# Altium schematic symbol library lib.SchLib: 480 symbols (part 2 of 6)
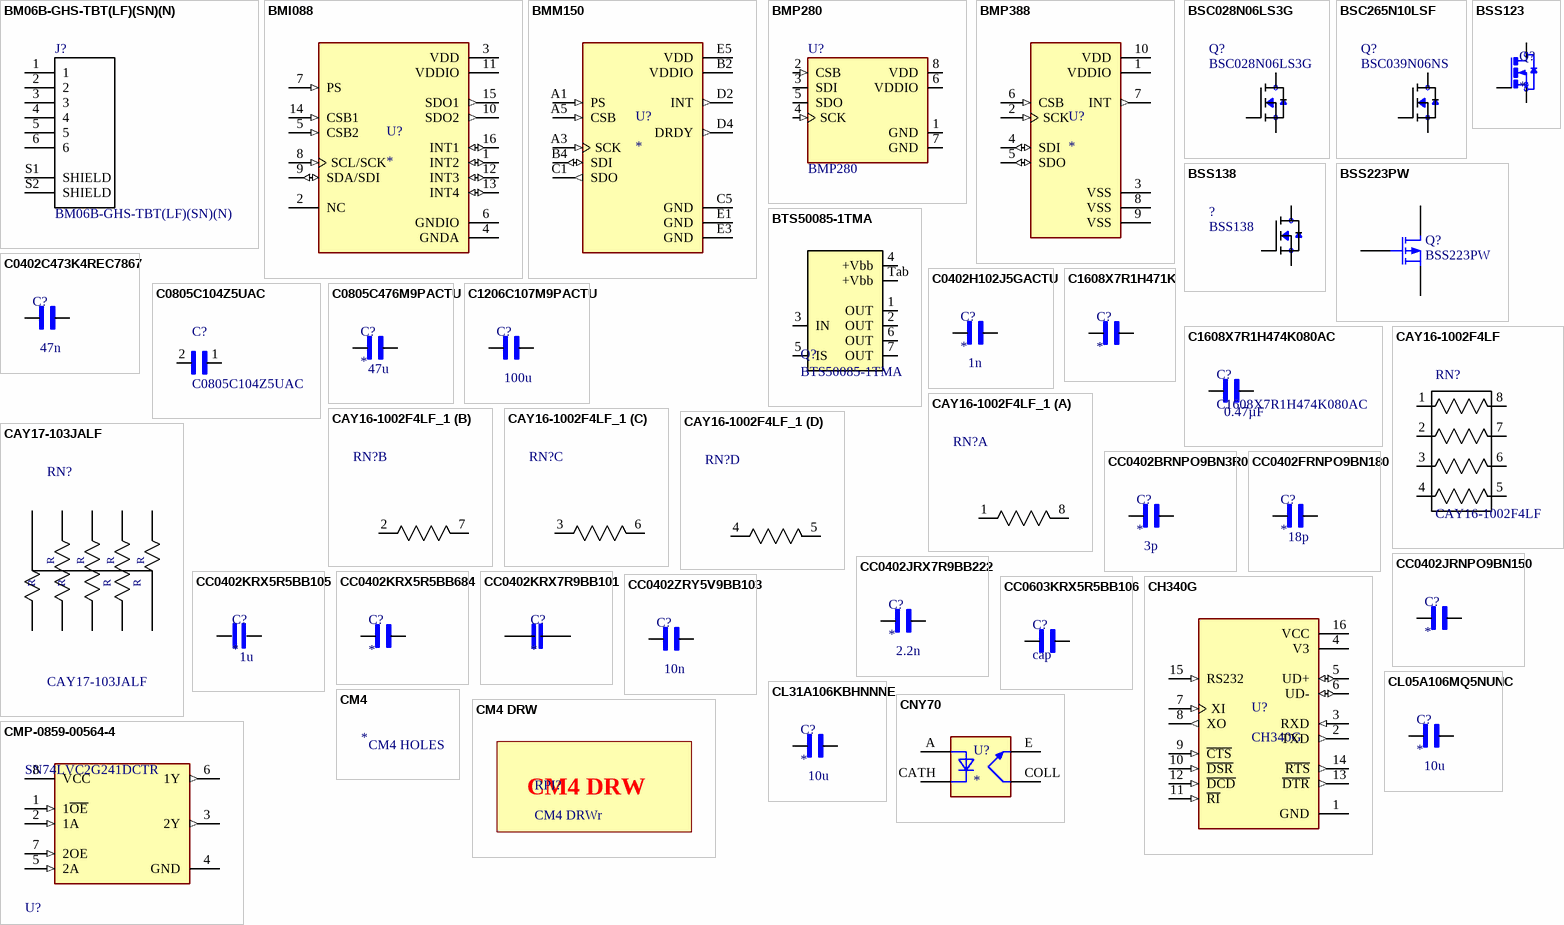
[diagram p21: symbols BM06B-GHS-TBT(LF)(SN)(N) to CNY70]

## CAY16-1002F4LF
designator RN?
10k Ohm В±1% 62.5mW Power Per Element Isolated Resistor Network/Array В±200ppm/В°C 1206 _3216 Metric_, Convex, Long Side Terminals; MF: Bourns; MP: CAY16-1002F4LF; SnapEDA_Link: https://www.snapeda.com/parts/CAY16-1002F4LF/Bourns/view-part/289970/?ref=snap; Package: 1206 Bourns; Value: *
footprint *RESCAXE80P320X160-8N
pins: 1, 2, 3, 4, 5, 6, 7, 8

## CAY16-1002F4LF_1
designator RN?, comment CAY16-1002F4LF  (value not drawn)
10k Ohm В±1% 62.5mW Power Per Element Isolated Resistor Network/Array В±200ppm/В°C 1206 _3216 Metric_, Convex, Long Side Terminals; MF: Bourns; MP: CAY16-1002F4LF; SnapEDA_Link: https://www.snapeda.com/parts/CAY16-1002F4LF/Bourns/view-part/289970/?ref=snap; Package: 1206 Bourns; Value: *
footprint *RESCAXE80P320X160-8N
part A pins: 1, 8
part B pins: 2, 7
part C pins: 3, 6
part D pins: 4, 5

## CAY17-103JALF
designator RN?
10k Ohm В±5% 62.5mW Power Per Element Bussed Resistor Network/Array В±250ppm/В°C 1206 _3216 Metric_, Convex, Long Side Terminals; MF: Bourns; Package: 1206 Bourns; SnapEDA_Link: https://www.snapeda.com/parts/CAY17-103JALF/Bourns%20-%20J.W.%20Miller/view-part/342691/?ref=snap; MP: CAY17-103JALF; Value: *
footprint *RESCAXS64P320X160X60-10N
pins: 1, 2, 3, 4, 5, 6, 7, 8, 9, 10
text: R

## CC0402BRNPO9BN3R0
designator C?  value 3p
0402 3 pF 50 V Â±0.1 pF Tolerance NP0 SMT Multilayer Ceramic Capacitor; MP: CC0402BRNPO9BN3R0; Package: None; Price: None; Availability: Unavailable
footprint CAPC1005X55N
pins: 1, 2

## CC0402FRNPO9BN180
designator C?  value 18p
18pF Â±1% 50V Ceramic Capacitor C0G, NP0 0402 (1005 Metric); MP: CC0402FRNPO9BN180; MF: Yageo; Package: 0402 Yageo; SnapEDA_Link: https://www.snapeda.com/parts/CC0402FRNPO9BN180/Yageo/view-part/1820898/?ref=snap; Purchase-URL: https://item.szlcsc.com/561927.html; ChipDip_Link: https://www.chipdip.ru/product0/8003038321; HelpURL: https://item.szlcsc.com/561927.html
footprint CAPC1005X55N
pins: 1, 2

## CC0402JRNPO9BN150
designator C?
KC 15pF 0402 5% 50V NP0; Value: 15p; MP: CC0402JRNPO9BN150; Package: None; Price: None; Availability: Unavailable
footprint CAPC1005X55N
pins: 1, 2

## CC0402JRX7R9BB222
designator C?  value 2.2n
KC 2.2nF 0402 5% 50V X7R; MP: CC0402JRX7R9BB222; Package: None; Price: None; Availability: Unavailable
footprint CAPC1005X55N
pins: 1, 2

## CC0402KRX5R5BB105
designator C?  value 1u
10% 6.3V Ceramic Capacitor X5R 0402 _1005 Metric_; MF: Yageo; MP: CC0402KRX5R5BB105; Price: None; Availability: Unavailable; Package: 0402; SnapEDA_Link: https://www.snapeda.com/parts/CC0402KRX5R5BB105/Yageo/view-part/105653/?ref=snap
footprint CAPC1005X55N
pins: 1, 2

## CC0402KRX5R5BB684
designator C?
CAP CER 0.68UF 6.3V X5R 0402; Value: 0.68u; MP: CC0402KRX5R5BB684; Package: None; Price: None; Availability: Unavailable
footprint CAPC1005X55N
pins: 1, 2

## CC0402KRX7R9BB101
designator C?
100pF Â±10% 50V Ceramic Capacitor X7R 0402 _1005 Metric_; MP: CC0402KRX7R9BB101; MF: Yageo; Value: 100p; Digi-Key_Part_Number: 311-1419-1-ND; Package: 0402 Yageo; SnapEDA_Link: https://www.snapeda.com/parts/CC0402KRX7R9BB101/Yageo/view-part/460095/?ref=snap; Digi-Key_Purchase_URL: https://www.digikey.com/product-detail/en/yageo/CC0402KRX7R9BB101/311-1419-1-ND/2833725?utm_source=snapeda&utm_medium=aggregator&utm_campaign=symbol
footprint CAPC1005X60
pins: 1, 2

## CC0402ZRY5V9BB103
designator C?, comment value 10n  (hidden comment: cap)
.01UF 50V +80-20% 0402; MP: CC0402ZRY5V9BB103; Package: None; Price: None; Availability: Unavailable
footprint CAPC1005X55N
pins: 1, 2

## CC0603KRX5R5BB106
designator C?, comment cap
10ÂµF Â±10% 6.3V Ceramic Capacitor X5R 0603 _1608 Metric_; Value: 10u; MP: CC0603KRX5R5BB106; MF: Yageo; SnapEDA_Link: https://www.snapeda.com/parts/CC0603KRX5R5BB106/Yageo/view-part/566409/?ref=snap; Package: 0603 Yageo; Digi-Key_Part_Number: 311-1781-1-ND; Digi-Key_Purchase_URL: https://www.digikey.ca/product-detail/en/yageo/CC0603KRX5R5BB106/311-1781-1-ND/5195683?utm_source=snapeda&utm_medium=aggregator&utm_campaign=symbol
footprint CAPC1608X90
pins: 1, 2

## CH340G
designator U?
USB Interface Integrated Circuit; MF: WCH; SnapEDA_Link: https://www.snapeda.com/parts/Ch340G/WCH/view-part/?ref=snap; MP: Ch340G; Value: *; Package: None; HelpURL: http://images.100y.com.tw/pdf_file/34-WCH-CH340G.pdf
footprint SOIC127P600X180-16N
pins: 1 GND (power), 2 TXD (out), 3 RXD (in), 4 V3 (power), 5 UD+ (io), 6 UD- (io), 7 XI (in), 8 XO (out), 9 ~{CTS} (in), 10 ~{DSR} (in), 11 ~{RI} (in), 12 ~{DCD} (in), 13 ~{DTR} (out), 14 ~{RTS} (out), 15 RS232 (in), 16 VCC (power)

## CL05A106MQ5NUNC
designator C?  value 10u
10 uF ±20% 6.3V Ceramic Capacitor X5R 0402 (1005 Metric); MF: YAGEO or Samsung; MP: CC0402MRX5R4BB106 or CL05A106MQ5NUNC; SnapEDA_Link: https://www.snapeda.com/parts/CL05A106MQ5NUNC/Samsung/view-part/3597832/?ref=snap; Availability: Good; Package: 0402; DigiKey-Purchase-URL: https://snapeda.com/shop?store=DigiKey&id=3597832; Arrow_Electronics-Purchase-URL: https://snapeda.com/shop?store=Arrow+Electronics&id=3597832; Price: None; Check_prices: https://www.snapeda.com/parts/CL05A106MQ5NUNC/Samsung/view-part/3597832/?ref=eda
footprint CAPC1005X55N
pins: 1, 2

## CL31A106KBHNNNE
designator C?  value 10u
10uF Â±10% 50V Ceramic Capacitor X5R 1206 (3216 Metric); MP: CL31A106KBHNNNE; MF: Samsung Electro-Mechanics; Availability: Good; Package: 1206 Samsung; Price: None; SnapEDA_Link: https://www.snapeda.com/parts/CL31A106KBHNNNE/Samsung%20Electro-Mechanics/view-part/3597975/?ref=snap; Purchase-URL: https://pricing.snapeda.com/search/part/CL31A106KBHNNNE/?ref=eda
footprint CAPC3216X180N
pins: 1, 2

## CM4
designator *  (value not drawn)
Instructions: DNP
footprint CM4
text: CM4 HOLES

## CM4 DRW
designator RPI?, comment CM4 DRWr
CM4 DRW; Manufacturer: SparkFun Electronics; Manufacturer Part Number: PRT-14017; Nils Minor: author; nilsminor@web.de: mail; Accessory Type: Connector; For Use With/Related Products: Raspberry Pi; RoHS: RoHS Compliant; Category: Development Boards, Kits, Programmers; Stock 1: 150; Pricing 1: 1=1.84 (EUR); Part Status: Active; ComponentLink1URL: https://cdn.sparkfun.com/datasheets/Dev/RaspberryPi/12313.pdf; ComponentLink1Description: https://cdn.sparkfun.com/datasheets/Dev/RaspberryPi/12313.pdf
footprint CM4 DRW (Raspberry pi CM4)

## CMP-0859-00564-4
designator U?, comment SN74LVC2G241DCTR
IC BUFFER NON-INVERT 5.5V SM8; MF: Texas Instruments; Package: DCT0008A; HelpURL: https://www.ti.com/lit/ds/symlink/sn74lvc2g241.pdf?ts=1646831791145&ref_url=https%253A%252F%252Fwww.google.com%252F; MP: SN74LVC2G241DCTR
footprint FP-DCT0008A-IPC_C
pins: 1 1~{OE} (in), 2 1A (in), 3 2Y (out), 4 GND (power), 5 2A (in), 6 1Y (out), 7 2OE (in), 8 VCC (power)

## CNY70
designator U?
Reflective Optical Sensor 0.197 _5mm_ PCB Mount; MP: CNY70; MF: Vishay; Package: PCB Mount Vishay; SnapEDA_Link: https://www.snapeda.com/parts/CNY70/Vishay%20Semiconductor%20Opto%20Division/view-part/230090/?ref=snap; Value: *; HelpURL: https://static.chipdip.ru/lib/990/DOC011990850.pdf
footprint DIPS254W50P254L710H600Q4
pins: A, CATH, COLL, E

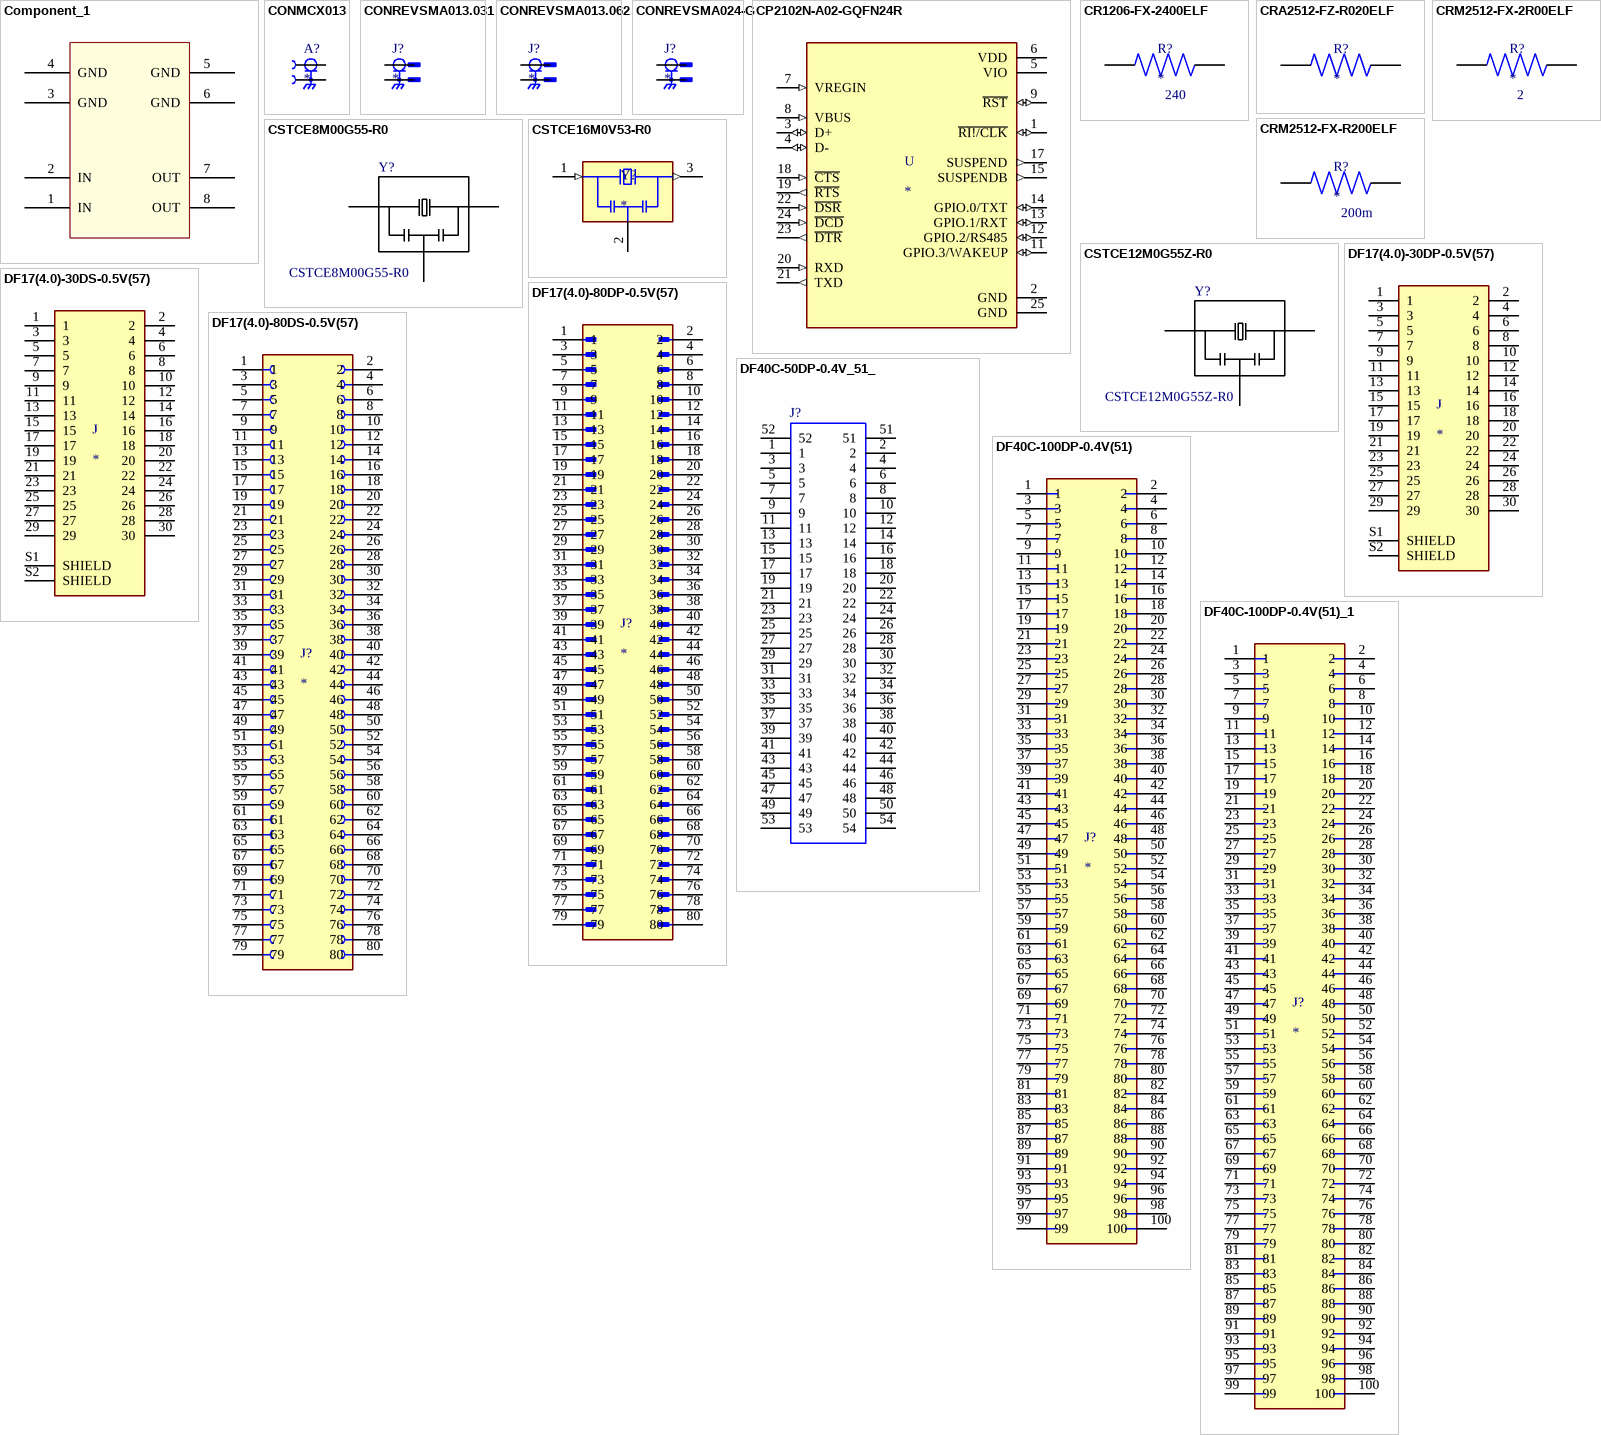
[diagram p4: symbols Component_1 to DF40C-100DP-0.4V(51)_1]

## Component_1
designator *  (value not drawn)
DC/DC
footprint DC/DC
pins: 1 IN, 2 IN, 3 GND, 4 GND, 5 GND, 6 GND, 7 OUT, 8 OUT

## CONMCX013
designator A?
RF Connectors / Coaxial Connectors MCX Connector Receptacle, Female Socket 50Ohm Board Edge, Cutout; Surface Mount Solder; MF: Linx Technologies; MP: CONMCX013; Package: -- Linx Technologies Inc.; Price: None; Availability: In Stock; Check_prices: https://www.snapeda.com/parts/CONMCX013/Linx/view-part/5168312/?ref=eda; SnapEDA_Link: https://www.snapeda.com/parts/CONMCX013/Linx/view-part/5168312/?ref=snap; Value: *
footprint LINX_CONMCX013
pins: 1, G1 2, G2 2

## CONREVSMA013.031
designator J?
CONN RPSMA PLG STR 50OHM EDGEMNT; MF: Linx; MP: CONREVSMA013.031; Package: None; Purchase-URL: https://pricing.snapeda.com/search/part/CONREVSMA013.031/?ref=eda; Value: *; SnapEDA_Link: https://www.snapeda.com/parts/CONREVSMA013.031/Linx/view-part/?ref=snap; Price: None; Check_prices: https://www.snapeda.com/parts/CONREVSMA013.031/Linx/view-part/?ref=eda; Availability: In Stock
footprint LINX_CONREVSMA013.031
pins: 1, S1 2, S2 2, S3 2, S4 2

## CONREVSMA013.062
designator J?
RP-SMA Plug 50 Ohm .062 PCB Edge Mount; MF: Linx; MP: CONREVSMA013.062; SnapEDA_Link: https://www.snapeda.com/parts/CONREVSMA013.062/Linx/view-part/?ref=snap; Package: None; Value: *; Check_prices: https://www.snapeda.com/parts/CONREVSMA013.062/Linx/view-part/?ref=eda
footprint LINX_CONREVSMA013.062
pins: 1, S1 2, S2 2, S3 2, S4 2

## CONREVSMA024-G
designator J?
RP-SMA Jack 50 Ohm PCB Cutout Mount; MF: Linx Technologies; MP: CONREVSMA024-G; SnapEDA_Link: https://www.snapeda.com/parts/CONREVSMA024-G/Linx/view-part/?ref=snap; Package: None; Value: *; Check_prices: https://www.snapeda.com/parts/CONREVSMA024-G/Linx/view-part/?ref=eda
footprint LINX_CONREVSMA024-G (Footprint not found)
pins: 1, G1 2, G2 2

## CP2102N-A02-GQFN24R
designator U
USB Bridge, USB to UART USB 2.0 UART Interface 24-QFN _4x4_; MF: Silicon Labs; MP: CP2102N-A02-GQFN24R; Package: WFQFN-24 Silicon Labs; SnapEDA_Link: https://www.snapeda.com/parts/CP2102N-A02-GQFN24R/Silicon%20Labs/view-part/3601234/?ref=snap; Value: *; ChipDip_Link: https://www.chipdip.ru/product/cp2102n-a02-gqfn24; HelpURL: http://www.farnell.com/datasheets/2786351.pdf
footprint QFN50P400X400X80-25N
pins: 1 ~{RI!/CLK} (io), 2 GND (power), 3 D+ (io), 4 D- (io), 5 VIO (power), 6 VDD (power), 7 VREGIN (in), 8 VBUS (in), 9 ~{RST} (io), 11 GPIO.3/WAKEUP (io), 12 GPIO.2/RS485 (io), 13 GPIO.1/RXT (io), 14 GPIO.0/TXT (io), 15 SUSPENDB (out), 17 SUSPEND (out), 18 ~{CTS} (in), 19 ~{RTS} (out), 20 RXD (in), 21 TXD (out), 22 ~{DSR} (in), 23 ~{DTR} (out), 24 ~{DCD} (in), 25 GND (power)

## CR1206-FX-2400ELF
designator R?  value 240
240 Ohms Â±1% 0.25W, 1/4W Chip Resistor 1206 (3216 Metric) Moisture Resistant Thick Film; MF: Bourns; MP: CR1206-FX-2400ELF; SnapEDA_Link: https://www.snapeda.com/parts/CR1206-FX-2400ELF/Bourns/view-part/?ref=snap; Package: 3216 Bourns; Check_prices: https://www.snapeda.com/parts/CR1206-FX-2400ELF/Bourns/view-part/?ref=eda; HelpURL: https://www.lcsc.com/product-detail/C205230.html
footprint RESC3216X75N
pins: 1, 2

## CRA2512-FZ-R020ELF
designator R?
Res 2512 0.02 Ohm 1% 3W Â±75ppm/Â°C Molded SMD SMD T/R; Value: 0.02; MP: CRA2512-FZ-R020ELF; MF: BOURNS; HelpURL: https://www.lcsc.com/datasheet/C840620.pdf
footprint RESC6432X90N
pins: 1, 2

## CRM2512-FX-2R00ELF
designator R?  value 2
2 Ohms Â±1% 2W Chip Resistor 2512 (6332 Metric) Current Sense Thick Film; MF: Bourns; MP: CRM2512-FX-2R00ELF; SnapEDA_Link: https://www.snapeda.com/parts/CRM2512-FX-2R00ELF/Bourns/view-part/?ref=snap; Package: 6331 Bourns; Check_prices: https://www.snapeda.com/parts/CRM2512-FX-2R00ELF/Bourns/view-part/?ref=eda; HelpURL: https://www.lcsc.com/product-detail/C6669154.html
footprint RESC6331X80N
pins: 1, 2

## CRM2512-FX-R200ELF
designator R?  value 200m
CRM2512 High Power Resistor,2512 R200 1% 2W TC100 | Bourns CRM2512-FX-R200ELF; SnapEDA_Link: https://www.snapeda.com/parts/CRM2512-FX-R200ELF/Bourns/view-part/?ref=snap; Package: 6331 Bourns; MF: Bourns; MP: CRM2512-FX-R200ELF; Check_prices: https://www.snapeda.com/parts/CRM2512-FX-R200ELF/Bourns/view-part/?ref=eda; HelpURL: https://www.lcsc.com/product-detail/C840602.html?s_z=n_BOURNS%2520200mohm%2520res
footprint RESC6331X80N
pins: 1, 2

## CSTCE8M00G55-R0
designator Y?
Ceramic Resonator 8MHz ??0.5% _Tol_ ??0.2% _Stability_ 33pF 40Ohm 3-Pin CSMD T/R; MP: CSTCE8M00G55-R0 or CSTCE8M00G52-R0; MF: Murata; Package: SMD-3 Murata; SnapEDA_Link: https://www.snapeda.com/parts/CSTCE8M00G55-R0/Murata%20Electronics%20North%20America/view-part/?ref=snap; Value: 8MHz; ChipDip_Link: https://www.chipdip.ru/product1/8001783721; HelpURL: https://www.murata.com/en-eu/api/pdfdownloadapi?cate=&partno=CSTCE8M00G55-R0; Type: SMD
footprint *OSC_CSTCE8M00G55-R0
pins: 1, 2 (power), 3

## CSTCE12M0G55Z-R0
designator Y?
Ceramic Resonator, 12 MHz, +/- 0.5%, -40 to 125 degC, 3-Pin SMD, RoHS, Tape and Reel; MF: Murata; Value: 12MHz; MP: CSTCE12M0G55Z-R0; Package: SMD-3 Murata; SnapEDA_Link: https://www.snapeda.com/parts/CSTCE8M00G55-R0/Murata%20Electronics%20North%20America/view-part/?ref=snap; ChipDip_Link: https://www.chipdip.ru/product1/8001783721; HelpURL: https://www.murata.com/en-eu/api/pdfdownloadapi?cate=&partno=CSTCE8M00G55-R0; Type: SMD
footprint *OSC_CSTCE8M00G55-R0
pins: 1, 2 (power), 3

## CSTCE16M0V53-R0
designator Y?
16MHz Ceramic Resonator Built in Capacitor 15pF Â±0.3% -20Â°C ~ 80Â°C Surface Mount; MP: CSTCE16M0V53-R0; MF: Murata; SnapEDA_Link: https://www.snapeda.com/parts/CSTCE16M0V53-R0/Murata%20Electronics%20North%20America/view-part/47416/?ref=snap; Value: 16MHz; Package: SMD-3 Murata; ChipDip_Link: https://www.chipdip.ru/product0/9000013813
footprint *OSC_CSTCE8M00G55-R0
pins: 1 IN (in), 2 GND (power), 3 OUT (out)

## DF17(4.0)-30DP-0.5V(57)
designator J
30 Position Connector Header, Outer Shroud Contacts Surface Mount Gold; MF: Hirose Electric; MP: DF17(4.0)-30DP-0.5V(57); Value: *; SnapEDA_Link: https://www.snapeda.com/parts/DF17(4.0)-30DP-0.5V(57)/Hirose%20Electric%20Co%20Ltd/view-part/134292/?ref=snap; Package: None; ChipDip_Link: https://www.chipdip.ru/product1/8002710048; HelpURL: https://static.chipdip.ru/lib/878/DOC011878500.pdf
footprint HRS_DF17(4.0)-30DP-0.5V(57)
pins: 1, 2, 3, 4, 5, 6, 7, 8, 9, 10, 11, 12, 13, 14, 15, 16, 17, 18, 19, 20, 21, 22, 23, 24, 25, 26, 27, 28, 29, 30, S1 SHIELD, S2 SHIELD

## DF17(4.0)-30DS-0.5V(57)
designator J
30 Position Connector Receptacle, Center Strip Contacts Surface Mount Gold; MP: DF17(4.0)-30DS-0.5V(57); MF: Hirose Electric; SnapEDA_Link: https://www.snapeda.com/parts/DF17(4.0)-30DS-0.5V(57)/Hirose%20Electric%20Co%20Ltd/view-part/210324/?ref=snap; Value: *; Package: None; ChipDip_Link: https://www.chipdip.ru/product1/8001997901; HelpURL: https://static.chipdip.ru/lib/878/DOC011878500.pdf
footprint HRS_DF17(4.0)-30DS-0.5V(57)
pins: 1, 2, 3, 4, 5, 6, 7, 8, 9, 10, 11, 12, 13, 14, 15, 16, 17, 18, 19, 20, 21, 22, 23, 24, 25, 26, 27, 28, 29, 30, S1 SHIELD, S2 SHIELD

## DF17(4.0)-80DP-0.5V(57)
designator J?
MP: DF17(4.0)-80DP-0.5V(57); Availability: Unavailable; Price: None; Package: None; Value: *
footprint HRS_DF17(4.0)-80DP-0.5V(57)
pins: 1, 2, 3, 4, 5, 6, 7, 8, 9, 10, 11, 12, 13, 14, 15, 16, 17, 18, 19, 20, 21, 22, 23, 24, 25, 26, 27, 28, 29, 30, 31, 32, 33, 34, 35, 36, 37, 38, 39, 40, 41, 42, 43, 44, 45, 46, 47, 48, 49, 50, 51, 52, 53, 54, 55, 56, 57, 58, 59, 60, 61, 62, 63, 64, 65, 66, 67, 68, 69, 70, 71, 72, 73, 74, 75, 76, 77, 78, 79, 80

## DF17(4.0)-80DS-0.5V(57)
designator J?
MP: DF17(4.0)-80DS-0.5V(57); Value: *; Availability: Unavailable; Price: None; Package: None
footprint HRS_DF17(4.0)-80DS-0.5V(57)
pins: 1, 2, 3, 4, 5, 6, 7, 8, 9, 10, 11, 12, 13, 14, 15, 16, 17, 18, 19, 20, 21, 22, 23, 24, 25, 26, 27, 28, 29, 30, 31, 32, 33, 34, 35, 36, 37, 38, 39, 40, 41, 42, 43, 44, 45, 46, 47, 48, 49, 50, 51, 52, 53, 54, 55, 56, 57, 58, 59, 60, 61, 62, 63, 64, 65, 66, 67, 68, 69, 70, 71, 72, 73, 74, 75, 76, 77, 78, 79, 80

## DF40C-50DP-0.4V_51_
designator J?
HIROSE(HRS) - DF40C-50DP-0.4V(51) - STIFTLEISTE, STAPELBAR, 50POS., 2 REIHEN; Geometry.Height: 1mm; MF: Hirose; MP: DF40C-50DP-0.4V(51); Mouser Part Number: 798-DF40C50DP0.4V51; Mouser Price/Stock: https://www.mouser.co.uk/ProductDetail/Hirose-Connector/DF40C-50DP-0.4V51?qs=eDUdFcBPps0UZyNZPNBu5A%3D%3D; HelpURL: https://nl.mouser.com/datasheet/2/185/DF40_Catalog_D31649_en-2301840.pdf; Arrow Price/Stock: *; Mouser Testing Part Number: *; Mouser Testing Price/Stock: *; Datasheet Link: https://datasheet.datasheetarchive.com/originals/distributors/SFDatasheet-7/sf-000141247.pdf
footprint DF40C50DP04V51
pins: 1, 2, 3, 4, 5, 6, 7, 8, 9, 10, 11, 12, 13, 14, 15, 16, 17, 18, 19, 20, 21, 22, 23, 24, 25, 26, 27, 28, 29, 30, 31, 32, 33, 34, 35, 36, 37, 38, 39, 40, 41, 42, 43, 44, 45, 46, 47, 48, 49, 50, 51, 52, 53, 54

## DF40C-100DP-0.4V(51)
designator J?
100 Position Connector Plug, Outer Shroud Contacts Surface Mount Gold; MF: Hirose Electric; MP: DF40C-100DP-0.4V(51); Value: *; Purchase-URL: https://pricing.snapeda.com/search/part/DF40C-100DP-0.4V(51)/?ref=eda; Price: None; SnapEDA_Link: https://www.snapeda.com/parts/DF40C-100DP-0.4V(51)/Hirose%20Electric%20Co%20Ltd/view-part/96653/?ref=snap; Check_prices: https://www.snapeda.com/parts/DF40C-100DP-0.4V(51)/Hirose%20Electric%20Co%20Ltd/view-part/96653/?ref=eda; Availability: Warning; Package: None
footprint HRS_DF40C-100DP-0.4V(51)
pins: 1, 2, 3, 4, 5, 6, 7, 8, 9, 10, 11, 12, 13, 14, 15, 16, 17, 18, 19, 20, 21, 22, 23, 24, 25, 26, 27, 28, 29, 30, 31, 32, 33, 34, 35, 36, 37, 38, 39, 40, 41, 42, 43, 44, 45, 46, 47, 48, 49, 50, 51, 52, 53, 54, 55, 56, 57, 58, 59, 60, 61, 62, 63, 64, 65, 66, 67, 68, 69, 70, 71, 72, 73, 74, 75, 76, 77, 78, 79, 80, 81, 82, 83, 84, 85, 86, 87, 88, 89, 90, 91, 92, 93, 94, 95, 96, 97, 98, 99, 100

## DF40C-100DP-0.4V(51)_1
designator J?
100 Position Connector Plug, Outer Shroud Contacts Surface Mount Gold; MF: Hirose Electric; MP: DF40C-100DP-0.4V(51); Value: *; Purchase-URL: https://pricing.snapeda.com/search/part/DF40C-100DP-0.4V(51)/?ref=eda; Price: None; SnapEDA_Link: https://www.snapeda.com/parts/DF40C-100DP-0.4V(51)/Hirose%20Electric%20Co%20Ltd/view-part/96653/?ref=snap; Check_prices: https://www.snapeda.com/parts/DF40C-100DP-0.4V(51)/Hirose%20Electric%20Co%20Ltd/view-part/96653/?ref=eda; Availability: Warning; Package: None
footprint HRS_DF40C-100DP-0.4V(51)
pins: 1, 2, 3, 4, 5, 6, 7, 8, 9, 10, 11, 12, 13, 14, 15, 16, 17, 18, 19, 20, 21, 22, 23, 24, 25, 26, 27, 28, 29, 30, 31, 32, 33, 34, 35, 36, 37, 38, 39, 40, 41, 42, 43, 44, 45, 46, 47, 48, 49, 50, 51, 52, 53, 54, 55, 56, 57, 58, 59, 60, 61, 62, 63, 64, 65, 66, 67, 68, 69, 70, 71, 72, 73, 74, 75, 76, 77, 78, 79, 80, 81, 82, 83, 84, 85, 86, 87, 88, 89, 90, 91, 92, 93, 94, 95, 96, 97, 98, 99, 100

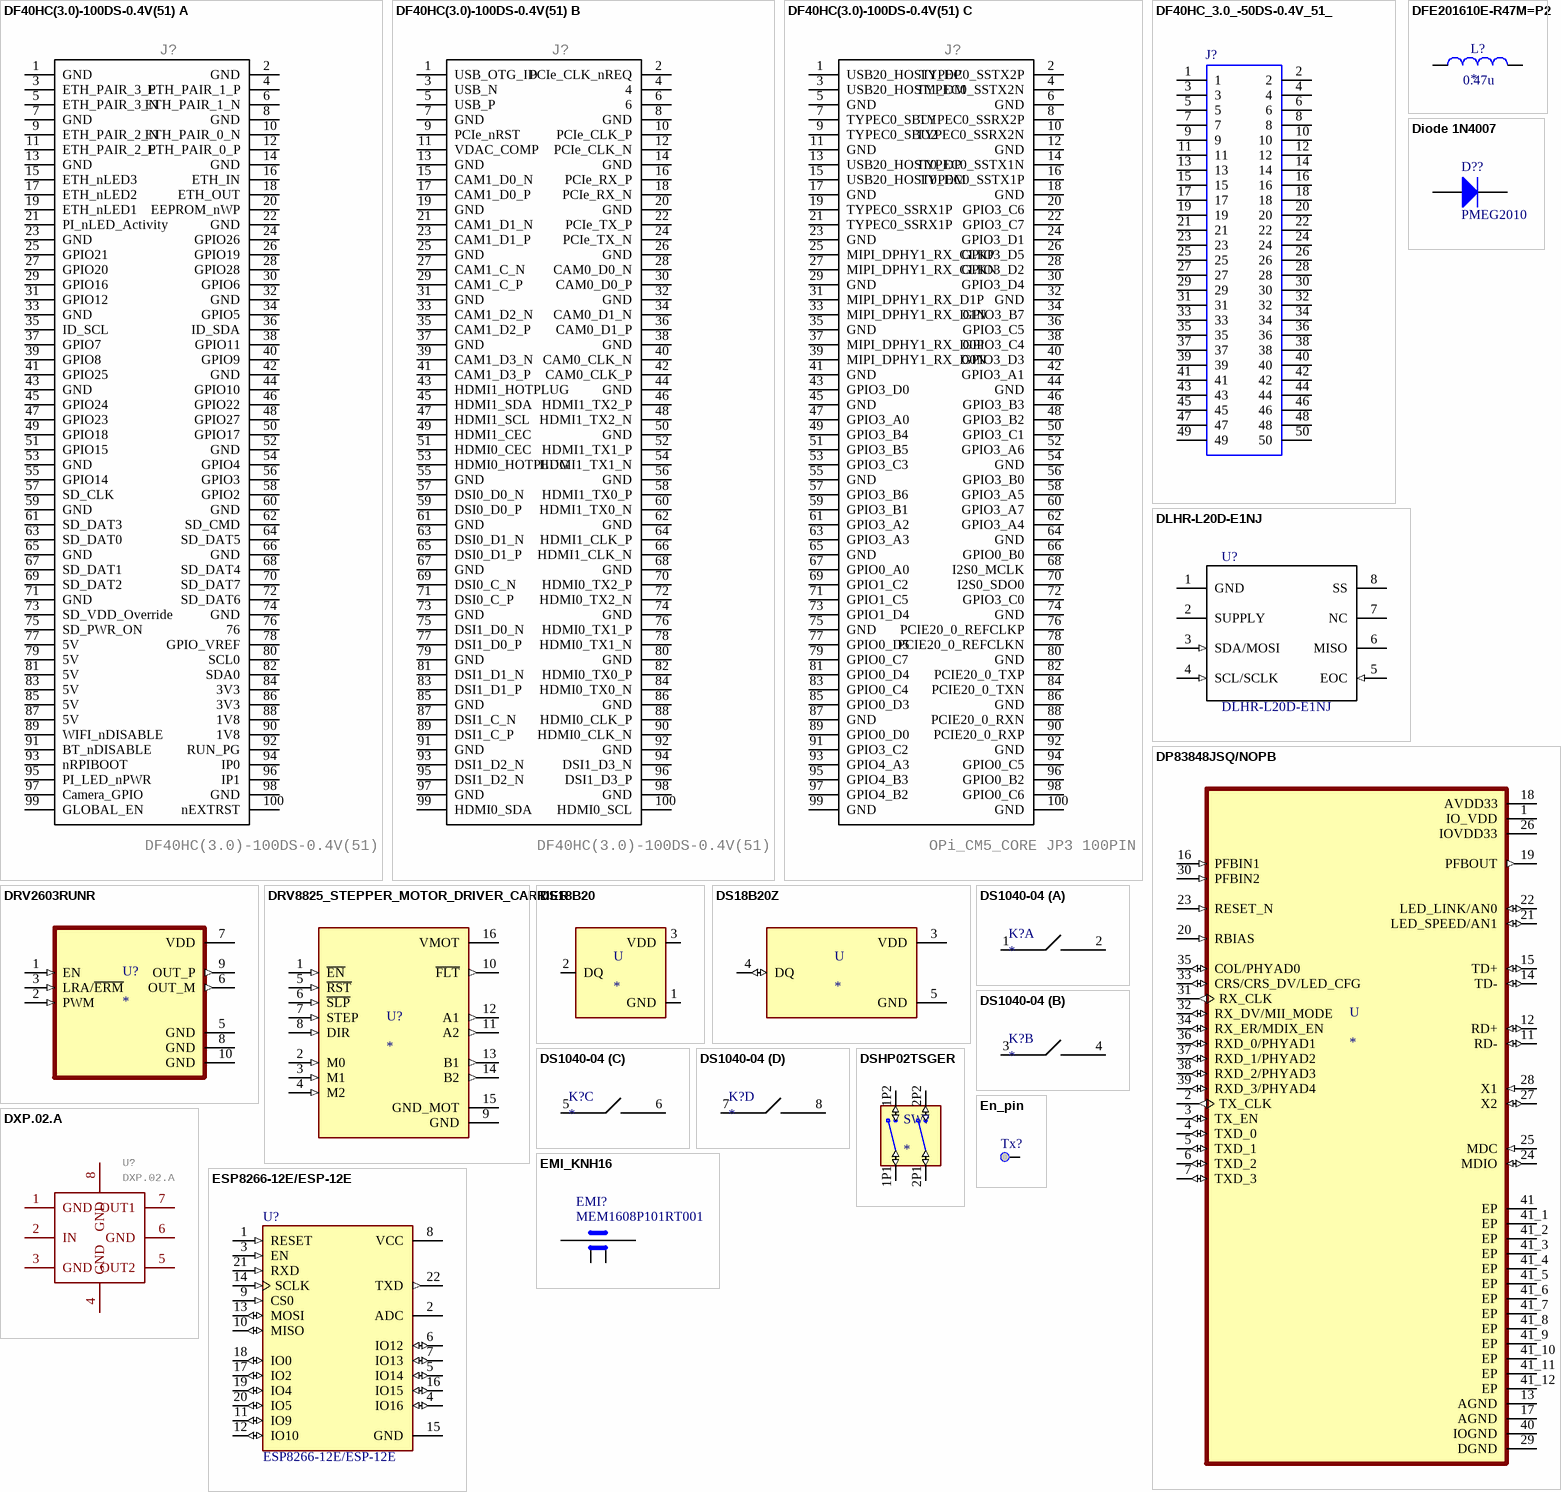
[diagram p5: symbols DF40HC(3.0)-100DS-0.4V(51) A to ESP8266-12E/ESP-12E]

## DF40HC(3.0)-100DS-0.4V(51) A
designator J?, comment DF40HC(3.0)-100DS-0.4V(51)
DF40 Series 100 Position Dual Row 0.4 mm Pitch Surface Mount Vertical Receptacle; GateName_1: G$1; SymbolName_1: DF40C-100DS-0.4V(51); MF: Hirose; LibraryName: qualified_1; DeviceSetName: DF40C-100DS-0.4V(51); DIGI-KEY_PART_NUMBER: H11615CT-ND; DIGI-KEY_PURCHASE_URL: https://www.digikey.ca/product-detail/en/hirose-electric-co-ltd/DF40C-100DS-0.4V_51_/H11615CT-ND/1969495?utm_source=snapeda&utm_medium=aggregator&utm_campaign=symbol; MP: DF40HC(3.0)-100DS-0.4V(51); PACKAGE: None
footprint HRS_DF40C-100DS-0.4V(51)
pins: 1 GND, 2 GND, 3 ETH_PAIR_3_P, 4 ETH_PAIR_1_P, 5 ETH_PAIR_3_N, 6 ETH_PAIR_1_N, 7 GND, 8 GND, 9 ETH_PAIR_2_N, 10 ETH_PAIR_0_N, 11 ETH_PAIR_2_P, 12 ETH_PAIR_0_P, 13 GND, 14 GND, 15 ETH_nLED3, 16 ETH_IN, 17 ETH_nLED2, 18 ETH_OUT, 19 ETH_nLED1, 20 EEPROM_nWP, 21 PI_nLED_Activity, 22 GND, 23 GND, 24 GPIO26, 25 GPIO21, 26 GPIO19, 27 GPIO20, 28 GPIO28, 29 GPIO16, 30 GPIO6, 31 GPIO12, 32 GND, 33 GND, 34 GPIO5, 35 ID_SCL, 36 ID_SDA, 37 GPIO7, 38 GPIO11, 39 GPIO8, 40 GPIO9, 41 GPIO25, 42 GND, 43 GND, 44 GPIO10, 45 GPIO24, 46 GPIO22, 47 GPIO23, 48 GPIO27, 49 GPIO18, 50 GPIO17, 51 GPIO15, 52 GND, 53 GND, 54 GPIO4, 55 GPIO14, 56 GPIO3, 57 SD_CLK, 58 GPIO2, 59 GND, 60 GND, 61 SD_DAT3, 62 SD_CMD, 63 SD_DAT0, 64 SD_DAT5, 65 GND, 66 GND, 67 SD_DAT1, 68 SD_DAT4, 69 SD_DAT2, 70 SD_DAT7, 71 GND, 72 SD_DAT6, 73 SD_VDD_Override, 74 GND, 75 SD_PWR_ON, 76, 77 5V, 78 GPIO_VREF, 79 5V, 80 SCL0, 81 5V, 82 SDA0, 83 5V, 84 3V3, 85 5V, 86 3V3, 87 5V, 88 1V8, 89 WIFI_nDISABLE, 90 1V8, 91 BT_nDISABLE, 92 RUN_PG, 93 nRPIBOOT, 94 IP0, 95 PI_LED_nPWR, 96 IP1, 97 Camera_GPIO, 98 GND, 99 GLOBAL_EN, 100 nEXTRST

## DF40HC(3.0)-100DS-0.4V(51) B
designator J?, comment DF40HC(3.0)-100DS-0.4V(51)
DF40 Series 100 Position Dual Row 0.4 mm Pitch Surface Mount Vertical Receptacle; GateName_1: G$1; SymbolName_1: DF40C-100DS-0.4V(51); MF: Hirose; LibraryName: qualified_1; DeviceSetName: DF40C-100DS-0.4V(51); DIGI-KEY_PART_NUMBER: H11615CT-ND; DIGI-KEY_PURCHASE_URL: https://www.digikey.ca/product-detail/en/hirose-electric-co-ltd/DF40C-100DS-0.4V_51_/H11615CT-ND/1969495?utm_source=snapeda&utm_medium=aggregator&utm_campaign=symbol; MP: DF40HC(3.0)-100DS-0.4V(51); PACKAGE: None
footprint HRS_DF40C-100DS-0.4V(51)
pins: 1 USB_OTG_ID, 2 PCIe_CLK_nREQ, 3 USB_N, 4, 5 USB_P, 6, 7 GND, 8 GND, 9 PCIe_nRST, 10 PCIe_CLK_P, 11 VDAC_COMP, 12 PCIe_CLK_N, 13 GND, 14 GND, 15 CAM1_D0_N, 16 PCIe_RX_P, 17 CAM1_D0_P, 18 PCIe_RX_N, 19 GND, 20 GND, 21 CAM1_D1_N, 22 PCIe_TX_P, 23 CAM1_D1_P, 24 PCIe_TX_N, 25 GND, 26 GND, 27 CAM1_C_N, 28 CAM0_D0_N, 29 CAM1_C_P, 30 CAM0_D0_P, 31 GND, 32 GND, 33 CAM1_D2_N, 34 CAM0_D1_N, 35 CAM1_D2_P, 36 CAM0_D1_P, 37 GND, 38 GND, 39 CAM1_D3_N, 40 CAM0_CLK_N, 41 CAM1_D3_P, 42 CAM0_CLK_P, 43 HDMI1_HOTPLUG, 44 GND, 45 HDMI1_SDA, 46 HDMI1_TX2_P, 47 HDMI1_SCL, 48 HDMI1_TX2_N, 49 HDMI1_CEC, 50 GND, 51 HDMI0_CEC, 52 HDMI1_TX1_P, 53 HDMI0_HOTPLUG, 54 HDMI1_TX1_N, 55 GND, 56 GND, 57 DSI0_D0_N, 58 HDMI1_TX0_P, 59 DSI0_D0_P, 60 HDMI1_TX0_N, 61 GND, 62 GND, 63 DSI0_D1_N, 64 HDMI1_CLK_P, 65 DSI0_D1_P, 66 HDMI1_CLK_N, 67 GND, 68 GND, 69 DSI0_C_N, 70 HDMI0_TX2_P, 71 DSI0_C_P, 72 HDMI0_TX2_N, 73 GND, 74 GND, 75 DSI1_D0_N, 76 HDMI0_TX1_P, 77 DSI1_D0_P, 78 HDMI0_TX1_N, 79 GND, 80 GND, 81 DSI1_D1_N, 82 HDMI0_TX0_P, 83 DSI1_D1_P, 84 HDMI0_TX0_N, 85 GND, 86 GND, 87 DSI1_C_N, 88 HDMI0_CLK_P, 89 DSI1_C_P, 90 HDMI0_CLK_N, 91 GND, 92 GND, 93 DSI1_D2_N, 94 DSI1_D3_N, 95 DSI1_D2_N, 96 DSI1_D3_P, 97 GND, 98 GND, 99 HDMI0_SDA, 100 HDMI0_SCL

## DF40HC(3.0)-100DS-0.4V(51) С
designator J?, comment OPi_CM5_CORE JP3 100PIN
DF40 Series 100 Position Dual Row 0.4 mm Pitch Surface Mount Vertical Receptacle; GateName_1: G$1; SymbolName_1: DF40C-100DS-0.4V(51); MF: Hirose; MP: DF40HC(3.0)-100DS-0.4V(51); LibraryName: qualified_1; DeviceSetName: DF40C-100DS-0.4V(51); DIGI-KEY_PART_NUMBER: H11615CT-ND; DIGI-KEY_PURCHASE_URL: https://www.digikey.ca/product-detail/en/hirose-electric-co-ltd/DF40C-100DS-0.4V_51_/H11615CT-ND/1969495?utm_source=snapeda&utm_medium=aggregator&utm_campaign=symbol; PACKAGE: None
footprint HRS_DF40C-100DS-0.4V(51)
pins: 1 USB20_HOST1_DP, 2 TYPEC0_SSTX2P, 3 USB20_HOST1_DM, 4 TYPEC0_SSTX2N, 5 GND, 6 GND, 7 TYPEC0_SBU1, 8 TYPEC0_SSRX2P, 9 TYPEC0_SBU2, 10 TYPEC0_SSRX2N, 11 GND, 12 GND, 13 USB20_HOST0_DP, 14 TYPEC0_SSTX1N, 15 USB20_HOST0_DM, 16 TYPEC0_SSTX1P, 17 GND, 18 GND, 19 TYPEC0_SSRX1P, 20 GPIO3_C6, 21 TYPEC0_SSRX1P, 22 GPIO3_C7, 23 GND, 24 GPIO3_D1, 25 MIPI_DPHY1_RX_CLKP, 26 GPIO3_D5, 27 MIPI_DPHY1_RX_CLKN, 28 GPIO3_D2, 29 GND, 30 GPIO3_D4, 31 MIPI_DPHY1_RX_D1P, 32 GND, 33 MIPI_DPHY1_RX_D1N, 34 GPIO3_B7, 35 GND, 36 GPIO3_C5, 37 MIPI_DPHY1_RX_D0P, 38 GPIO3_C4, 39 MIPI_DPHY1_RX_D0N, 40 GPIO3_D3, 41 GND, 42 GPIO3_A1, 43 GPIO3_D0, 44 GND, 45 GND, 46 GPIO3_B3, 47 GPIO3_A0, 48 GPIO3_B2, 49 GPIO3_B4, 50 GPIO3_C1, 51 GPIO3_B5, 52 GPIO3_A6, 53 GPIO3_C3, 54 GND, 55 GND, 56 GPIO3_B0, 57 GPIO3_B6, 58 GPIO3_A5, 59 GPIO3_B1, 60 GPIO3_A7, 61 GPIO3_A2, 62 GPIO3_A4, 63 GPIO3_A3, 64 GND, 65 GND, 66 GPIO0_B0, 67 GPIO0_A0, 68 I2S0_MCLK, 69 GPIO1_C2, 70 I2S0_SDO0, 71 GPIO1_C5, 72 GPIO3_C0, 73 GPIO1_D4, 74 GND, 75 GND, 76 PCIE20_0_REFCLKP, 77 GPIO0_D5, 78 PCIE20_0_REFCLKN, 79 GPIO0_C7, 80 GND, 81 GPIO0_D4, 82 PCIE20_0_TXP, 83 GPIO0_C4, 84 PCIE20_0_TXN, 85 GPIO0_D3, 86 GND, 87 GND, 88 PCIE20_0_RXN, 89 GPIO0_D0, 90 PCIE20_0_RXP, 91 GPIO3_C2, 92 GND, 93 GPIO4_A3, 94 GPIO0_C5, 95 GPIO4_B3, 96 GPIO0_B2, 97 GPIO4_B2, 98 GPIO0_C6, 99 GND, 100 GND

## DF40HC_3.0_-50DS-0.4V_51_
designator J?
Board to Board & Mezzanine Connectors 50P RECPT 3.0 STK HT W/O METAL FITTING; MP_: 798-DF40HC3050DS04V; MF: Hirose; MP: DF40HC(3.0)-50DS-0.4V(51); Geometry.Height: 3.05mm; Mouser Price/Stock: https://www.mouser.co.uk/ProductDetail/Hirose-Connector/DF40HC3.0-50DS-0.4V51?qs=3aug5cyrIbckh%2FQLfpkocw%3D%3D; HelpURL: https://nl.mouser.com/datasheet/2/185/DF40_Catalog_D31649_en-2301840.pdf; System: Connector
footprint DF40HC3050DS04V51
pins: 1, 2, 3, 4, 5, 6, 7, 8, 9, 10, 11, 12, 13, 14, 15, 16, 17, 18, 19, 20, 21, 22, 23, 24, 25, 26, 27, 28, 29, 30, 31, 32, 33, 34, 35, 36, 37, 38, 39, 40, 41, 42, 43, 44, 45, 46, 47, 48, 49, 50

## DFE201610E-R47M=P2
designator L?  value 0.47u
Inductor with Inductance: 0.47uH Tol. +/-20%, Package: 0806 (2016); MP: DFE201610E-R47M=P2; MF: Murata; Package: 0806-2 Murata; Digi-Key_Part_Number: 490-18109-2-ND; Check_prices: https://www.snapeda.com/parts/DFE201610E-R47M=P2/Murata/view-part/?ref=eda; Purchase-URL: https://pricing.snapeda.com/search/part/DFE201610E-R47M=P2/?ref=eda; SnapEDA_Link: https://www.snapeda.com/parts/DFE201610E-R47M=P2/Murata/view-part/?ref=snap
footprint INDC2016X100N
pins: 1, 2

## Diode 1N4007
designator D??, comment PMEG2010
1 Amp General Purpose Rectifier
footprint DIO10.46-5.3x2.8 (Diode, Axial; Body 5.2 x 2.7 mm (LxDia. max), Lead Dia. 0.86 mm (max))
simulation model 1N4007 (DIODE)
signal-integrity model 1N4007
footprint SOD323 (SOD-323/SC-76; 2 Leads; Body 1.7 x 1.3 mm, (LxW))
pins: 1 A, 2 K

## DLHR-L20D-E1NJ
designator U?
SnapEDA_Link: https://www.snapeda.com/parts/DLLR-L10G-E1BD-C-NAV8/Amphenol%20All%20Sensors%20Corporation/view-part/?ref=search&t=DLHR; MP: DLHR-L20D-E1NJ; Package: PowerSOIC-8 Texas Instruments; MF: DLHR-L20D-E1NJ; Value: *
footprint DSHR
pins: 1 GND (power), 2 SUPPLY (power), 3 SDA/MOSI (in), 4 SCL/SCLK (in), 5 EOC (in), 6 MISO (power), 7 NC (power), 8 SS (power)

## DP83848JSQ/NOPB
designator U
Commercial temperature, 10/100-Mbps Ethernet PHY transceiver in a 40-pin QFN package 40-WQFN 0 to 70; MP: DP83848JSQ/NOPB; MF: Texas Instruments; Package: WQFN-40 Texas Instruments; DigiKey-Purchase-URL: https://snapeda.com/shop?store=DigiKey&id=51648; Availability: Warning; SnapEDA_Link: https://www.snapeda.com/parts/DP83848JSQ/NOPB/Texas%20Instruments/view-part/51648/?ref=snap; Mouser-Purchase-URL: https://snapeda.com/shop?store=Mouser&id=51648; Price: None; Value: *; Texas_Instruments-Purchase-URL: https://snapeda.com/shop?store=Texas+Instruments&id=51648; BuyPart: https://www.snapeda.com/parts/DP83848JSQ/NOPB/Texas%20Instruments/view-part/51648/?ref=eda
footprint XCVR_DP83848JSQ/NOPB
pins: 1 IO_VDD (power), 2 TX_CLK (out), 3 TX_EN (io), 4 TXD_0 (io), 5 TXD_1 (io), 6 TXD_2 (io), 7 TXD_3 (io), 11 RD- (io), 12 RD+ (io), 13 AGND (power), 14 TD- (io), 15 TD+ (io), 16 PFBIN1 (in), 17 AGND (power), 18 AVDD33 (power), 19 PFBOUT (out), 20 RBIAS (in), 21 LED_SPEED/AN1 (io), 22 LED_LINK/AN0 (io), 23 RESET_N (in), 24 MDIO (io), 25 MDC (in), 26 IOVDD33 (power), 27 X2 (io), 28 X1 (in), 29 DGND (power), 30 PFBIN2 (in), 31 RX_CLK (out), 32 RX_DV/MII_MODE (io), 33 CRS/CRS_DV/LED_CFG (io), 34 RX_ER/MDIX_EN (io), 35 COL/PHYAD0 (io), 36 RXD_0/PHYAD1 (io), 37 RXD_1/PHYAD2 (io), 38 RXD_2/PHYAD3 (io), 39 RXD_3/PHYAD4 (io), 40 IOGND (power), 41 EP (power), 41_1 EP (power), 41_2 EP (power), 41_3 EP (power), 41_4 EP (power), 41_5 EP (power), 41_6 EP (power), 41_7 EP (power), 41_8 EP (power), 41_9 EP (power), 41_10 EP (power), 41_11 EP (power), 41_12 EP (power)

## DRV2603RUNR
designator U?
Haptic driver for ERM/LRA with auto-resonance tracking in QFN package; MF: Texas Instruments; MP: DRV2603RUNR; SnapEDA_Link: https://www.snapeda.com/parts/DRV2603RUNR/Texas+Instruments/view-part/?ref=snap; Package: WQFN-10 Texas Instruments; Value: *; Check_prices: https://www.snapeda.com/parts/DRV2603RUNR/Texas+Instruments/view-part/?ref=eda
footprint QFN50P200X200X80-10N
pins: 1 EN (in), 2 PWM (in), 3 LRA/~{ERM} (in), 5 GND (power), 6 OUT_M (out), 7 VDD (power), 8 GND (power), 9 OUT_P (out), 10 GND (power)

## DRV8825_STEPPER_MOTOR_DRIVER_CARRIER
designator U?
DRV8825 Motor Controller/Driver Power Management Evaluation Board; MP: DRV8825 STEPPER MOTOR DRIVER CARRIER; MF: Pololu; Value: *; SnapEDA_Link: https://www.snapeda.com/parts/DRV8825%20STEPPER%20MOTOR%20DRIVER%20CARRIER/Pololu/view-part/1449238/?ref=snap; Package: None
footprint IC_DRV8825_STEPPER_MOTOR_DRIVER_CARRIER
pins: 1 ~{EN} (in), 2 M0 (in), 3 M1 (in), 4 M2 (in), 5 ~{RST} (in), 6 ~{SLP} (in), 7 STEP (in), 8 DIR (in), 9 GND (power), 10 ~{FLT} (out), 11 A2 (out), 12 A1 (out), 13 B1 (out), 14 B2 (out), 15 GND_MOT (power), 16 VMOT (power)

## DS18B20
designator U
Temperature Sensor Digital, Local -55Â°C ~ 125Â°C 12 b TO-92-3; MF: Maxim Integrated; MP: DS18B20; Package: TO-92 Maxim Integrated; Value: *; SnapEDA_Link: https://www.snapeda.com/parts/DS18B20/Maxim%20Integrated/view-part/1266091/?ref=snap
footprint TO-92-TO92127P495H2044-3
pins: 1 GND (power), 2 DQ (io), 3 VDD (power)

## DS18B20Z
designator U
Temperature Sensor Digital, Local -55Â°C ~ 125Â°C 12 b 8-SOIC; MP: DS18B20Z+; MF: Maxim Integrated; SnapEDA_Link: https://www.snapeda.com/parts/DS18B20Z%2B/Maxim%20Integrated/view-part/109391/?ref=snap; Value: *; Package: SOIC-8 Maxim
footprint SOIC127P600X175-8N
pins: 3 VDD (power), 4 DQ (io), 5 GND (power)

## DS1040-04
designator K?
DS1040-04RN, DIP переключатель 4pin красный
footprint DS1040-04
part A pins: 1 I1, 2 O1
part B pins: 3 I1, 4 O1
part C pins: 5 I1, 6 O1
part D pins: 7 I1, 8 O1

## DSHP02TSGER
designator SW?
DSHP Series 1.27mm Pitch DIP Switch 4 POS; MF: KINGTEK INDUSTRIAL; MP: DSHP02TSGER; Check_prices: https://www.snapeda.com/parts/DSHP02TSGER/GTE/view-part/4478207/?ref=eda; Package: None; Value: *; Price: None; Availability: Warning; SnapEDA_Link: https://www.snapeda.com/parts/DSHP02TSGER/GTE/view-part/4478207/?ref=snap; HelpURL: https://item.szlcsc.com/3856577.html
footprint DSHP02TSGER
pins: 1P1 (io), 1P2 (io), 2P1 (io), 2P2 (io)

## DXP.02.A
designator U?
RF Diplexer 1206.9225MHz/1582.1875MHz 8-Pin SMD T/R   Source:  Datasheet; GateName_1: G$1; MF: Taoglas; SymbolName_1: DXP.02.A; LibraryName: DXP.02.A; DeviceSetName: DXP.02.A; Package: DXP02A; Mouser_Part_Number: 960-DXP.02.A; Mouser_Price-Stock: https://www.mouser.co.uk/ProductDetail/Taoglas/DXP02A?qs=pfd5qewlna5qR8UB%252BgiI%252Bw%3D%3D; MP: DXP.02.A; Height: 1.7mm; HelpURL: https://nl.mouser.com/datasheet/2/398/DXP.02.A-1115846.pdf
footprint DXP02A
pins: 1 GND (power), 2 IN (power), 3 GND (power), 4 GND (power), 5 OUT2 (power), 6 GND (power), 7 OUT1 (power), 8 GND (power)

## EMI_KNH16
designator EMI?, comment MEM1608P101RT001
100 МГц, 0603, Фильтр ЭМП; ChipDip_Link: https://www.chipdip.ru/product/mem1608p101rt001-100; HelpURL: https://static.chipdip.ru/lib/492/DOC001492205.pdf
footprint EMI_KNH16_0603
pins: 1 L1, 2 L2, 3 G (power), 4 G

## En_pin
designator Tx?  (value not drawn)
footprint En_pin_TP
footprint EN_PIN_SMD (Footprint not found)
footprint EnPinSMD-mali
pins: 1

## ESP8266-12E/ESP-12E
designator U?
ESP-12E WiFi Module; MF: {'manufacturer': u'AI-Thinker'}; MP: ESP8266-12E/ESP-12E; Value: *; Package: None
footprint XCVR_ESP8266-12E/ESP-12E
pins: 1 RESET (in), 2 ADC, 3 EN (in), 4 IO16 (io), 5 IO14 (io), 6 IO12 (io), 7 IO13 (io), 8 VCC (power), 9 CS0 (in), 10 MISO (io), 11 IO9 (io), 12 IO10 (io), 13 MOSI (io), 14 SCLK (in), 15 GND (power), 16 IO15 (io), 17 IO2 (io), 18 IO0 (io), 19 IO4 (io), 20 IO5 (io), 21 RXD (in), 22 TXD (out)

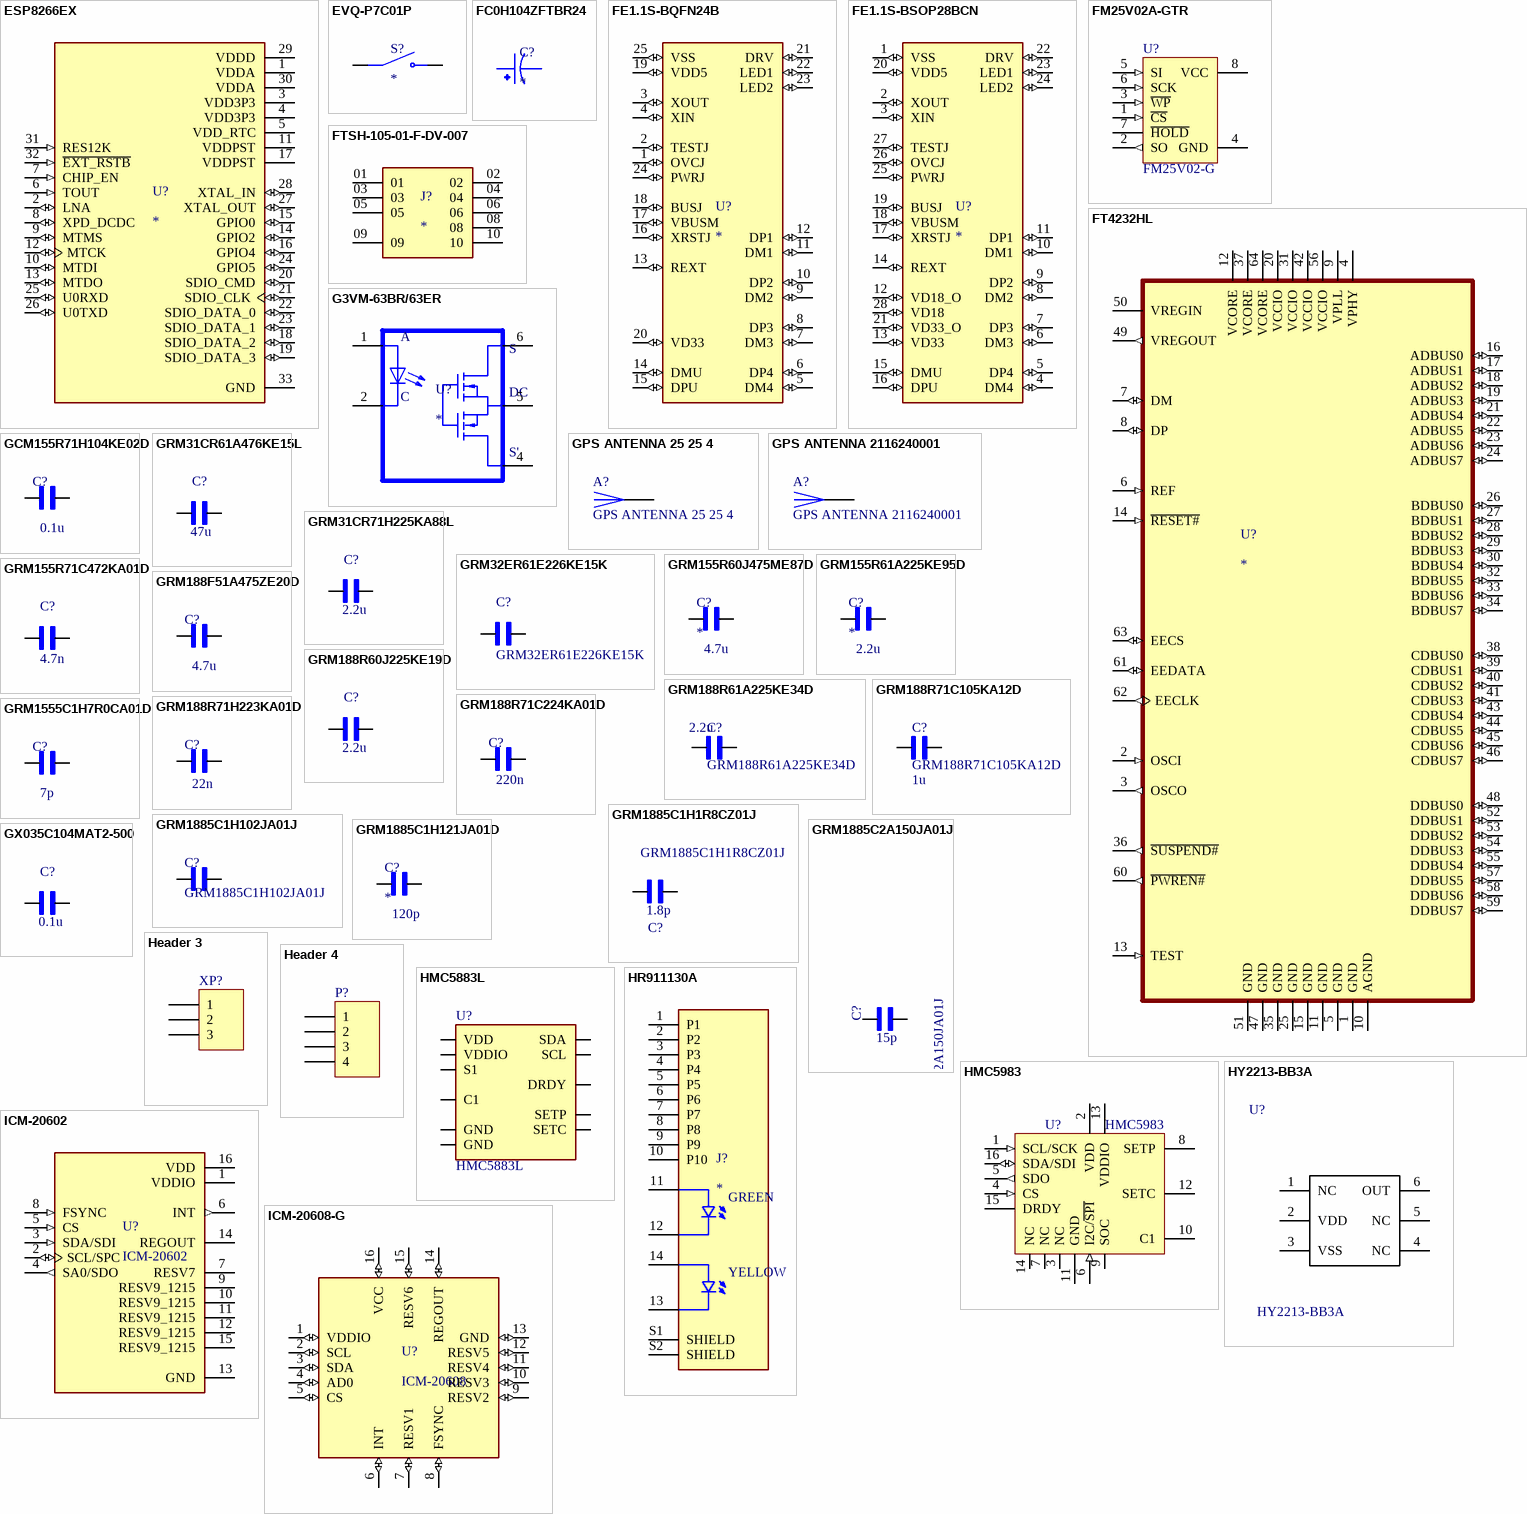
[diagram p6: symbols ESP8266EX to ICM-20608-G]

## ESP8266EX
designator U?
IC RF TxRx + MCU WiFi 802.11b/g/n 2.4GHz 32-VFQFN Exposed Pad; MF: Espressif Systems; MP: ESP8266EX; SnapEDA_Link: https://www.snapeda.com/parts/ESP8266EX/Espressif%20Systems/view-part/555861/?ref=snap; Value: *; Package: VFQFN-32 Espressif Systems
footprint QFN50P500X500X80-33N
pins: 1 VDDA (power), 2 LNA (io), 3 VDD3P3 (power), 4 VDD3P3 (power), 5 VDD_RTC (power), 6 TOUT (in), 7 CHIP_EN (in), 8 XPD_DCDC (io), 9 MTMS (io), 10 MTDI (io), 11 VDDPST (power), 12 MTCK (io), 13 MTDO (io), 14 GPIO2 (io), 15 GPIO0 (io), 16 GPIO4 (io), 17 VDDPST (power), 18 SDIO_DATA_2 (io), 19 SDIO_DATA_3 (io), 20 SDIO_CMD (io), 21 SDIO_CLK (io), 22 SDIO_DATA_0 (io), 23 SDIO_DATA_1 (io), 24 GPIO5 (io), 25 U0RXD (io), 26 U0TXD (io), 27 XTAL_OUT (io), 28 XTAL_IN (io), 29 VDDD (power), 30 VDDA (power), 31 RES12K (in), 32 ~{EXT_RSTB} (in), 33 GND (power)

## EVQ-P7C01P
designator S?
Switch;Tactile;3.5x2.9mm;1KV;Right Angle;Light Touch Switch | Panasonic Electronic Components EVQ-P7C01P; SnapEDA_Link: https://www.snapeda.com/parts/EVQ-P7C01P/Panasonic+Electronic+Components/view-part/?ref=snap; Package: None; Value: *; MF: Panasonic Electronic; MP: EVQ-P7C01P; Check_prices: https://www.snapeda.com/parts/EVQ-P7C01P/Panasonic+Electronic+Components/view-part/?ref=eda
footprint SW_EVQ-P7C01P
pins: 1_1 1, 1_2 1, 2_1 2, 2_2 2

## FC0H104ZFTBR24
designator C?
100mF _EDLC_ Supercapacitor 5.5V Radial, Can - SMD 25Ohm @ 1kHz; MF: KEMET; MP: FC0H104ZFTBR24; SnapEDA_Link: https://www.snapeda.com/parts/FC0H104ZFTBR24/KEMET/view-part/592089/?ref=snap; Availability: Unavailable; Value: *; Price: None; Package: Radial KEMET
footprint CAPAE1080X580N
pins: 1, 2

## FE1.1S-BQFN24B
designator U?
Terminus Tech FE1.1S-BQFN24B  https://item.szlcsc.com/7735567.html; Check_prices: https://www.snapeda.com/parts/FE1.1S/Terminus-Tech/view-part/?ref=eda; MF: terminus; Package: None; Availability: Not in stock; Value: *; MP: FE1.1S-BQFN24B; SnapEDA_Link: https://www.snapeda.com/parts/FE1.1S/Terminus-Tech/view-part/?ref=snap; Price: None; HelpURL: https://datasheet.lcsc.com/lcsc/2306141021_Terminus-Tech-FE1-1S-BQFN24B_C6776948.pdf
footprint QFN50P400X400X80-25N
pins: 1 OVCJ (io), 2 TESTJ (io), 3 XOUT (io), 4 XIN (io), 5 DM4 (io), 6 DP4 (io), 7 DM3 (io), 8 DP3 (io), 9 DM2 (io), 10 DP2 (io), 11 DM1 (io), 12 DP1 (io), 13 REXT (io), 14 DMU (io), 15 DPU (io), 16 XRSTJ (io), 17 VBUSM (io), 18 BUSJ (io), 19 VDD5 (io), 20 VD33 (io), 21 DRV (io), 22 LED1 (io), 23 LED2 (io), 24 PWRJ (io), 25 VSS (io)

## FE1.1S-BSOP28BCN
designator U?
FE1.1S USB 2.0 High Speed 4-Port Hub Controller https://item.szlcsc.com/9888.html; MF: terminus; MP: FE1.1S-BSOP28BCN; Check_prices: https://www.snapeda.com/parts/FE1.1S/Terminus-Tech/view-part/?ref=eda; Package: None; Availability: Not in stock; Value: *; SnapEDA_Link: https://www.snapeda.com/parts/FE1.1S/Terminus-Tech/view-part/?ref=snap; Price: None; HelpURL: https://cdn-shop.adafruit.com/product-files/2991/FE1.1s%20Data%20Sheet%20(Rev.%201.0).pdf
footprint FE1.1S_SSOP-28
pins: 1 VSS (io), 2 XOUT (io), 3 XIN (io), 4 DM4 (io), 5 DP4 (io), 6 DM3 (io), 7 DP3 (io), 8 DM2 (io), 9 DP2 (io), 10 DM1 (io), 11 DP1 (io), 12 VD18_O (io), 13 VD33 (io), 14 REXT (io), 15 DMU (io), 16 DPU (io), 17 XRSTJ (io), 18 VBUSM (io), 19 BUSJ (io), 20 VDD5 (io), 21 VD33_O (io), 22 DRV (io), 23 LED1 (io), 24 LED2 (io), 25 PWRJ (io), 26 OVCJ (io), 27 TESTJ (io), 28 VD18 (io)

## FM25V02A-GTR
designator U?, comment FM25V02-G
FRAM 256кБ (32Kx8) 3В SOIC-8; ChipDip_Link: https://www.chipdip.ru/product0/8413102648; HelpURL: https://static.chipdip.ru/lib/218/DOC007218388.pdf
footprint SO-8_N (8-Pin Small Outline Integrated Circuit 1.27 mm Pitch, IPC Medium Density)
pins: 1 ~{CS} (in), 2 SO (out), 3 ~{WP} (in), 4 GND (power), 5 SI (in), 6 SCK (in), 7 ~{HOLD}, 8 VCC (power)

## FT4232HL
designator U?
USB Bridge, USB to UART USB 2.0 UART Interface 64-LQFP _10x10_; MF: FTDI, Future; MP: FT4232HL; Package: LQFP-64 FTDI; Value: *; SnapEDA_Link: https://www.snapeda.com/parts/FT4232HL/FTDI%2C%20Future%20Technology%20Devices%20International%20Ltd/view-part/564635/?ref=snap
footprint QFP50P1200X1200X160-64N
pins: 1 GND (power), 2 OSCI (in), 3 OSCO (out), 4 VPHY (power), 5 GND (power), 6 REF (in), 7 DM (io), 8 DP (io), 9 VPLL (power), 10 AGND (power), 11 GND (power), 12 VCORE (power), 13 TEST (in), 14 ~{RESET#} (in), 15 GND (power), 16 ADBUS0 (io), 17 ADBUS1 (io), 18 ADBUS2 (io), 19 ADBUS3 (io), 20 VCCIO (power), 21 ADBUS4 (io), 22 ADBUS5 (io), 23 ADBUS6 (io), 24 ADBUS7 (io), 25 GND (power), 26 BDBUS0 (io), 27 BDBUS1 (io), 28 BDBUS2 (io), 29 BDBUS3 (io), 30 BDBUS4 (io), 31 VCCIO (power), 32 BDBUS5 (io), 33 BDBUS6 (io), 34 BDBUS7 (io), 35 GND (power), 36 ~{SUSPEND#} (out), 37 VCORE (power), 38 CDBUS0 (io), 39 CDBUS1 (io), 40 CDBUS2 (io), 41 CDBUS3 (io), 42 VCCIO (power), 43 CDBUS4 (io), 44 CDBUS5 (io), 45 CDBUS6 (io), 46 CDBUS7 (io), 47 GND (power), 48 DDBUS0 (io), 49 VREGOUT (out), 50 VREGIN (power), 51 GND (power), 52 DDBUS1 (io), 53 DDBUS2 (io), 54 DDBUS3 (io), 55 DDBUS4 (io), 56 VCCIO (power), 57 DDBUS5 (io), 58 DDBUS6 (io), 59 DDBUS7 (io), 60 ~{PWREN#} (out), 61 EEDATA (io), 62 EECLK (out), 63 EECS (io), 64 VCORE (power)

## FTSH-105-01-F-DV-007
designator J?
Connector Header Surface Mount 10 position 0.050 (1.27mm); MF: Samtec; MP: FTSH-105-01-F-DV-007-K-P; SnapEDA_Link: https://www.snapeda.com/parts/FTSH-105-01-F-DV-007-K-P/Samtec%20Inc./view-part/700165/?ref=snap; Digi-Key_Part_Number: SAM13926TR-ND; Check_prices: https://www.snapeda.com/parts/FTSH-105-01-F-DV-007-K-P/Samtec%20Inc./view-part/700165/?ref=eda; Value: *; Package: None; Purchase-URL: https://pricing.snapeda.com/search/part/FTSH-105-01-F-DV-007-K-P/?ref=eda
footprint SAMTEC_FTSH-105-01-F-DV-007
pins: 01, 02, 03, 04, 05, 06, 08, 09, 10

## G3VM-63BR/63ER
designator U?
MOS FET Relays DIP 6-pin, High Current and Low ON-Resistance Type; MP: G3VM-63BR/63ER; MF: omron; Digi-Key_Part_Number: VO14642AABCT-ND; Value: *; SnapEDA_Link: https://www.snapeda.com/parts/VO14642AABTR/Vishay%20Semiconductor%20Opto%20Division/view-part/226427/?ref=snap; Digi-Key_Purchase_URL: https://www.digikey.com/product-detail/en/vishay-semiconductor-opto-division/VO14642AABTR/VO14642AABCT-ND/4743823?utm_source=snapeda&utm_medium=aggregator&utm_campaign=symbol; Package: SMD-6 Vishay; HelpURL: https://www.lcsc.com/datasheet/C22458506.pdf
footprint SOIC254P1005X390-6N
pins: 1 A, 2 C, 4 S', 5 DC, 6 S

## GCM155R71H104KE02D
designator C?  value 0.1u  (hidden comment: *)
GCM155R71H104KE02D, Чип 0402 X7R 0.1uF +10% 50V,Конденсатор; MF: Murata; SnapEDA_Link: https://www.snapeda.com/parts/GCM155R71H104KE02D/Murata%20Electronics%20North%20America/view-part/597463/?ref=snap; Package: 0402; MP: GCM155R71H104KE02D; ChipDip_Link: https://www.chipdip.ru/product/gcm155r71h104ke02d-murata
footprint CAPC1005X55N
pins: 1, 2

## GPS ANTENNA 25 25 4
designator A?
146168-0001, Antenna, GPS, 1.578 GHz to 1.572 GHz, 5.5 dBi Gain, SMD, Right Hand Circular; MF: Samtec; SnapEDA_Link: https://www.snapeda.com/parts/SMA-J-P-H-ST-EM1/Samtec%20Inc./view-part/134500/?ref=snap; MP: 146168-0001; Value: *; Package: SMT; ChipDip_Link: https://www.chipdip.ru/product/146168-0001; HelpURL: https://static.chipdip.ru/lib/962/DOC011962362.pdf
footprint GPS_25_25
pins: 1

## GPS ANTENNA 2116240001
designator A?
GPS L1/L5 and Glonass 36.00mm Stacked Patch Single Feed Antenna; MF: Samtec; SnapEDA_Link: https://www.snapeda.com/parts/SMA-J-P-H-ST-EM1/Samtec%20Inc./view-part/134500/?ref=snap; MP: 2116240001; Value: *; Package: SMT; ChipDip_Link: https://www.chipdip.ru/product/146168-0001; HelpURL: https://www.molex.com/molex/products/part-detail/antennas/2116240001
footprint GPS_2116240001
pins: 1

## GRM31CR61A476KE15L
designator C?  value 47u  (hidden comment: GRM31CR61A476KE15L)
Multilayer Ceramic Capacitor, GRM Series, 47 - F, - 10%, X5R, 10 V, 1206 [3216 Metric]; MF: Murata Electronics; Type: SMD; Package: 1206 Murata Electronics; MP: GRM31CR61A476KE15L; SnapEDA_Link: https://www.snapeda.com/parts/GRM31CR61A476KE15L/Murata%20Electronics%20North%20America/view-part/?ref=snap; ChipDip_Link: https://www.chipdip.ru/product0/8001779807
footprint *CAPC3216X125N
pins: 1, 2

## GRM31CR71H225KA88L
designator C?  value 2.2u  (hidden comment: GRM31CR71H225KA88L)
1206 2.2 uF 50 V В±10% Tolerance X7R SMT Multilayer Ceramic Capacitor; MF: Murata Electronics; Type: SMD; Package: 1206 Murata; SnapEDA_Link: https://www.snapeda.com/parts/GRM31CR71H225KA88L/Murata%20Electronics%20North%20America/view-part/?ref=snap; MP: GRM31CR71H225KA88L; ChipDip_Link: https://www.chipdip.ru/product/grm31cr71h225ka88l
footprint *CAP3216X125N
pins: 1, 2

## GRM32ER61E226KE15K
designator C?
Кер.чип.конд. 1210 X5R 22мкФ 25В 10%, GRM32ER61E226KE15K; Value: 22u; SnapEDA_Link: https://www.snapeda.com/parts/GRM32ER61E226KE15K/Murata%20Electronics%20North%20America/view-part/1756515/?ref=snap; ChipDip_Link: https://www.chipdip.ru/product0/9000122658; HelpURL: https://www.chipdip.ru/product0/9000122658
footprint *CAPC3225X270N
pins: 1, 2

## GRM155R60J475ME87D
designator C?  value 4.7u
SMD capacitor X5R(EIA) with capacitance 4.7uF Tol.20%. Rated voltage 6.3Vdc 85C; MP: GRM155R60J475ME87D; MF: Murata; Availability: Warning; Package: 1005 Murata; SnapEDA_Link: https://www.snapeda.com/parts/GRM155R60J475ME87D/Murata%20Electronics%20North%20America/view-part/78682/?ref=snap; Check_prices: https://www.snapeda.com/parts/GRM155R60J475ME87D/Murata%20Electronics%20North%20America/view-part/78682/?ref=eda; Price: None
footprint CAPC1005X65N
pins: 1, 2

## GRM155R61A225KE95D
designator C?  value 2.2u
2.2 µF ±10% 10V Ceramic Capacitor X5R 0402 (1005 Metric); MF: Murata; MP: GRM155R61A225KE95D; SnapEDA_Link: https://www.snapeda.com/parts/GRM155R61A225KE95D/Murata/view-part/?ref=snap; Package: 1005 Taiyo Yuden; Check_prices: https://www.snapeda.com/parts/GRM155R61A225KE95D/Murata/view-part/?ref=eda
footprint CAPC1005X55N
pins: 1, 2

## GRM155R71C472KA01D
designator C?  value 4.7n  (hidden comment: GRM155R71C472KA01D)
Кер.чип.конд. 0402 X7R 4.7нФ 16В 10%, GRM155R71C472KA01D; SnapEDA_Link: https://www.snapeda.com/parts/GRM155R71C472KA01D/Murata%20Electronics%20North%20America/view-part/1795691/?ref=snap; ChipDip_Link: https://www.chipdip.ru/product/grm155r71c472ka01d; HelpURL: https://static.chipdip.ru/lib/250/DOC000250694.pdf
footprint *CAPC1005X55N
pins: 1, 2

## GRM188F51A475ZE20D
designator C?  value 4.7u  (hidden comment: *)
CAP SMT CER 4.7UF 10V 80-20% 0603 T/R PICK#136035; MP: GRM188F51A475ZE20D; Package: 0603; ChipDip_Link: https://www.chipdip.ru/product/grm188f51a475ze20d
footprint CAPC1608X90N
pins: 1, 2

## GRM188R60J225KE19D
designator C?  value 2.2u  (hidden comment: GRM188R60J225KE19D)
SMD Capacitor X5R(EIA) with Capacitance: 2.2uF Tol. 10%. Rated Voltage: 6.3Vdc; SnapEDA_Link: https://www.snapeda.com/parts/GRM188R60J225KE19D/Murata%20Electronics%20North%20America/view-part/518950/?ref=snap; ChipDip_Link: https://www.chipdip.ru/product0/8615801004; HelpURL: https://www.chipdip.ru/product/grm188r60j225ke19d; Type: SMD; MP: GRM188R60J225KE19D; Package: 0603
footprint *CAPC1608X90N
pins: 1, 2

## GRM188R61A225KE34D
designator C?  value 2.2u
0603 Ceramic SMT capacitor 2.2uF 10Vdc; MF: {'manufacturer': u'Murata Electronics'}; MP: GRM188R61A225KE34D; Package: 0603; ChipDip_Link: https://www.chipdip.ru/product/grm188r61a225k; HelpURL: https://www.chipdip.ru/product/grm188r61a225k
footprint CAPC1608X90N
pins: 1, 2

## GRM188R71C105KA12D
designator C?  value 1u
SMD Capacitor X7R(EIA) with Capacitance: 1.0uF Tol. 10%. Rated Voltage: 16Vdc; MF: Murata Electronics; MP: GRM188R71C105KA12D; SnapEDA_Link: https://www.snapeda.com/parts/GRM188R71C105KA12D/Murata%20Electronics%20North%20America/view-part/228340/?ref=snap; Package: 0603; ChipDip_Link: https://www.chipdip.ru/product/grm188r71c105ka12d; HelpURL: https://static.chipdip.ru/lib/428/DOC005428493.pdf; Type: SMD
footprint CAPC1608X90N
pins: 1, 2

## GRM188R71C224KA01D
designator C?  value 220n  (hidden comment: *)
SMD Capacitor X7R_EIA_ with Capacitance: 0.22uF Tol. 10%. Rated Voltage: 16Vdc; MP: GRM188R71C224KA01D; MF: Murata; SnapEDA_Link: https://www.snapeda.com/parts/GRM188R71C224KA01D/Murata%20Electronics%20North%20America/view-part/1758738/?ref=snap; Package: 0603; ChipDip_Link: https://www.chipdip.ru/product/grm188r71c224ka01d
footprint CAPC1608X90N
pins: 1, 2

## GRM188R71H223KA01D
designator C?  value 22n  (hidden comment: *)
0603 22 nF 50V ±10 % Tolerance X7R SMT Multilayer Ceramic Capacitor; MP: GRM188R71H223KA01D; Package: 0603; ChipDip_Link: https://www.chipdip.ru/product/grm188r71h223k; HelpURL: https://www.chipdip.ru/product/grm188r71h223k
footprint CAPC1608X90N
pins: 1, 2

## GRM1555C1H7R0CA01D
designator C?  value 7p  (hidden comment: *)
GRM1555C1H7R0CA01D, Кер.чип.конд. 0402 C0G 7пФ 50В; MP: GRM1555C1H7R0CA01D; ChipDip_Link: https://www.chipdip.ru/product/grm1555c1h7r0ca01d; Package: 0402
footprint CAPC1005X55N
pins: 1, 2

## GRM1885C1H1R8CZ01J
designator C?  value 1.8p
Кер.ЧИП конд. 1.8пФ NPO 50В 0.25%0603, GRM1885C1H1R8C; Type: SMD; SnapEDA_Link: https://www.snapeda.com/parts/GRM1885C1H1R8CZ01J/Murata/view-part/3819068/?ref=snap; ChipDip_Link: https://www.chipdip.ru/product/grm1885c1h1r8c; HelpURL: https://static.chipdip.ru/lib/428/DOC005428493.pdf; MP: GRM1885C1H1R8CZ01J; Package: 0603
footprint *CAPC1608X90N
pins: 1, 2

## GRM1885C1H102JA01J
designator C?
SMD Capacitor C0G_EIA_ with Capacitance: 1000pF Tol. 5%. Rated Voltage: 50Vdc; Value: 1nF; MF: Murata; Package: 1608 Murata; SnapEDA_Link: https://www.snapeda.com/parts/GRM1885C1H102JA01J/Murata/view-part/4378805/?ref=snap; MP: GRM1885C1H102JA01J; ChipDip_Link: https://www.chipdip.ru/product/grm1885c1h102j
footprint CAPC1608X90N
pins: 1, 2

## GRM1885C1H121JA01D
designator C?  value 120p
Cap Ceramic 120pF 50V C0G 5% Pad SMD 0603 125ÂÂŽ T/R; MP: GRM1885C1H121JA01D; Package: None; Price: None; Availability: Unavailable
footprint CAPC1608X90N
pins: 1, 2

## GRM1885C2A150JA01J
designator C?  value 15p
Кер.ЧИП конд. 15пФ NPO 100В 5%0603; Type: SMD; SnapEDA_Link: https://www.snapeda.com/parts/GRM1885C2A150JA01J/Murata/view-part/1812122/?ref=snap; ChipDip_Link: https://www.chipdip.ru/product/grm1885c2a150j; HelpURL: https://static.chipdip.ru/lib/428/DOC005428493.pdf; MP: GRM1885C2A150JA01J; Package: 0603
footprint *CAPC1608X90N
pins: 1, 2

## GX035C104MAT2-500
designator C?  value 0.1u  (hidden comment: GX035C104MAT2-500)
Cap Thin Film 0.1uf 50v 0603; MF: AVX; Type: SMD; Package: 0603 AVX; MP: GX035C104MAT2-500; SnapEDA_Link: https://www.snapeda.com/parts/GX035C104MAT2-500/AVX/view-part/?ref=snap; ChipDip_Link: https://www.chipdip.ru/product0/9000410929
footprint *CAPC1608X90
pins: 1, 2

## Header 3
designator XP?
Header, 3-Pin
footprint HDR Side 3 pin
pins: 1, 2, 3

## Header 4
designator P?
Header, 4-Pin
signal-integrity model Connector
footprint HDR1X4 (Connector; Header; 4 Position)
pins: 1, 2, 3, 4

## HMC5883L
designator U?
Magnetoresistive Sensor X, Y, Z Axis 16-LCC; MP: HMC5883L-T; MF: Honeywell Aerospace; Value: *; Package: LCC-16 Honeywell; SnapEDA_Link: https://www.snapeda.com/parts/HMC5883L-T/Honeywell%20Aerospace/view-part/449311/?ref=snap; Type: SMD
footprint LPCC-16
pins: 1 SCL (io), 2 VDD (io), 4 S1 (io), 8 SETP (io), 9 GND (io), 10 C1 (io), 11 GND (io), 12 SETC (io), 13 VDDIO (io), 15 DRDY (io), 16 SDA (io)

## HMC5983
designator U?
3-Axis Digital Compass IC; HelpURL: http://www.farnell.com/datasheets/1509871.pdf?_ga=2.219060057.1318745487.1555987311-293789508.1555987311; MP: HMC5983
footprint HMC5883L
pins: 1 SCL/SCK (in), 2 VDD (power), 3 NC, 4 CS (in), 5 SDO (out), 6 I2C/~{SPI} (in), 7 NC, 8 SETP, 9 SOC (power), 10 C1, 11 GND (power), 12 SETC, 13 VDDIO (power), 14 NC, 15 DRDY, 16 SDA/SDI (io)

## HR911130A
designator J?
MF: hanrun; MP: HR911130A; SnapEDA_Link: https://www.snapeda.com/parts/HR911130A/HanRun/view-part/?ref=snap; Package: None; Value: *; Check_prices: https://www.snapeda.com/parts/HR911130A/HanRun/view-part/?ref=eda; HelpURL: https://www.lcsc.com/datasheet/C54408.pdf
footprint HANRUN_HR911130A
pins: 1 P1, 2 P2, 3 P3, 4 P4, 5 P5, 6 P6, 7 P7, 8 P8, 9 P9, 10 P10, 11, 12, 13, 14, S1 SHIELD, S2 SHIELD
text: GREEN; YELLOW

## HY2213-BB3A
designator U?
MF: infineon; MP: IRS10752LTRPBF; Package: SOT-23-6; SnapEDA_Link: https://www.snapeda.com/parts/IRS10752LTRPBF/Infineon%20Technologies/view-part/?ref=search&t=IRS10752; Value: *; HelpURL: http://www.hycontek.com/wp-content/uploads/DS-HY2213_EN.pdf; ChipDip_Link: http://www.hycontek.com/wp-content/uploads/DS-HY2213_EN.pdf
footprint sot23-6
pins: 1 NC (power), 2 VDD, 3 VSS (power), 4 NC (power), 5 NC, 6 OUT (power)

## ICM-20602
designator U?
Accelerometer, Gyroscope, Temperature, 6 Axis Sensor IÂ²C, SPI Output; MF: TDK InvenSense; Package: PQFN-16 TDK-InvenSense; SnapEDA_Link: https://www.snapeda.com/parts/ICM-20602/TDK%20InvenSense/view-part/474472/?ref=snap; Value: *; MP: ICM-20602; ChipDip_Link: https://www.chipdip.ru/product0/8003731040; HelpURL: https://static.chipdip.ru/lib/755/DOC011755320.pdf
footprint PQFN50P300X300X80-16N
pins: 1 VDDIO (power), 2 SCL/SPC (io), 3 SDA/SDI (in), 4 SA0/SDO (out), 5 CS (in), 6 INT (out), 7 RESV7, 8 FSYNC (in), 9 RESV9_1215, 10 RESV9_1215, 11 RESV9_1215, 12 RESV9_1215, 13 GND (power), 14 REGOUT, 15 RESV9_1215, 16 VDD (power)

## ICM-20608-G
designator U?, comment ICM-20608
3-axis gyroscope, and a 3-axis accelerometer - I2C, SPI Output; MF: TDK InvenSense; Package: LGA-16 InvenSense; MP: ICM-20608; Value: *; SnapEDA_Link: https://www.snapeda.com/parts/ICM-20608/TDK%20InvenSense/view-part/73524/?ref=snap; ChipDip_Link: https://www.chipdip.ru/product0/8004579306; HelpURL: https://invensense.tdk.com/wp-content/uploads/2015/03/DS-000081-v1.01.pdf
footprint LGA-16-3PX5P
pins: 1 VDDIO (io), 2 SCL (io), 3 SDA (io), 4 AD0 (io), 5 CS (io), 6 INT (io), 7 RESV1 (io), 8 FSYNC (io), 9 RESV2 (io), 10 RESV3 (io), 11 RESV4 (io), 12 RESV5 (io), 13 GND (io), 14 REGOUT (io), 15 RESV6 (io), 16 VCC (io)

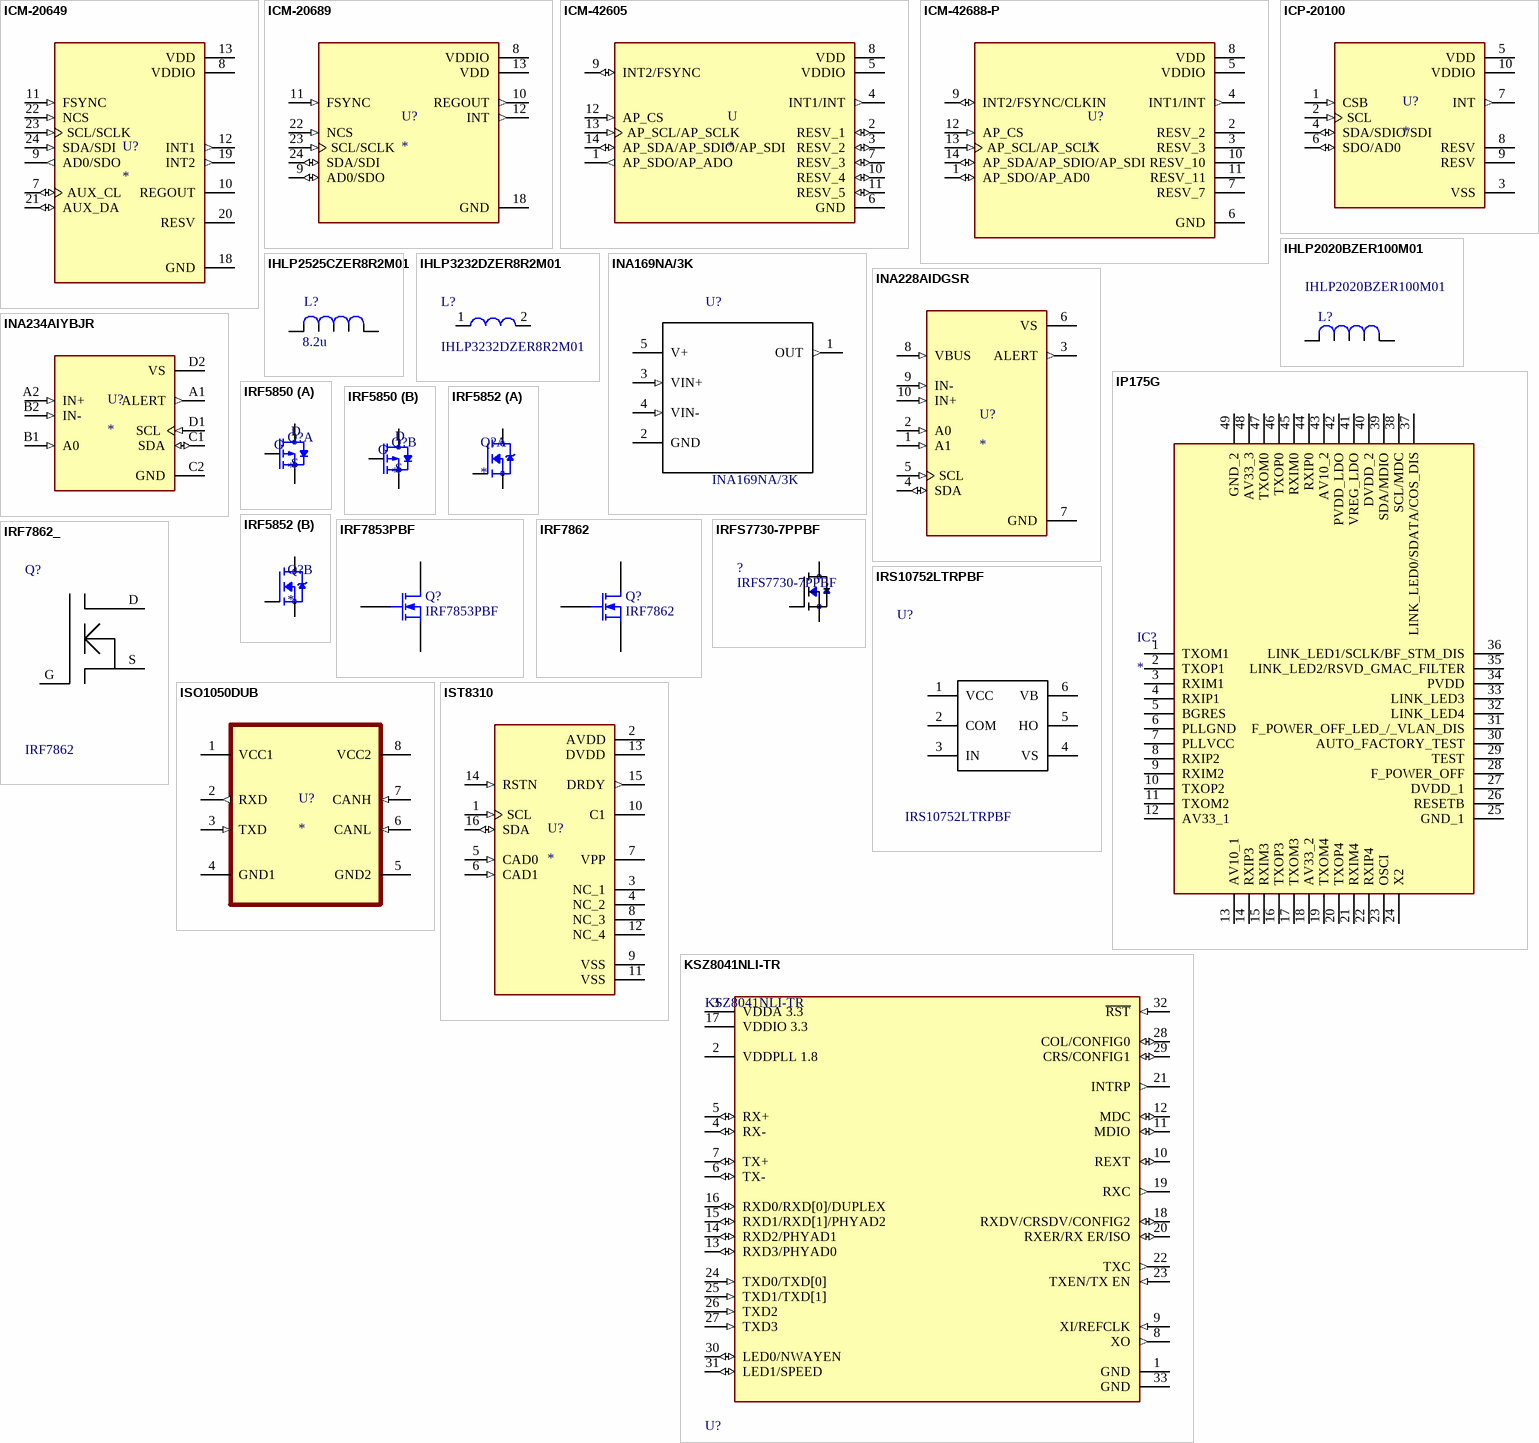
[diagram p7: symbols ICM-20649 to KSZ8041NLI-TR]

## ICM-20649
designator U?
Accelerometer, Gyroscope, Temperature, 6 Axis Sensor IÂ²C, SPI Output; MF: TDK InvenSense; MP: ICM-20649; Package: QFN-24 InvenSense; SnapEDA_Link: https://www.snapeda.com/parts/ICM-20649/TDK%20InvenSense/view-part/557276/?ref=snap; Value: *; HelpURL: https://grobotronics.com/images/companies/1/ICM-20649datasheet.pdf?1630406677531
footprint QFN40P300X300X95-24N
pins: 7 AUX_CL (io), 8 VDDIO (power), 9 AD0/SDO (out), 10 REGOUT, 11 FSYNC (in), 12 INT1 (out), 13 VDD (power), 18 GND (power), 19 INT2 (out), 20 RESV, 21 AUX_DA (io), 22 NCS (in), 23 SCL/SCLK (in), 24 SDA/SDI (in)